# Altium schematic symbol library MOTHERBOARD.SchLib: 669 symbols (part 1 of 2)
Pins are listed as number, name and electrical type; pins without a type are passive.

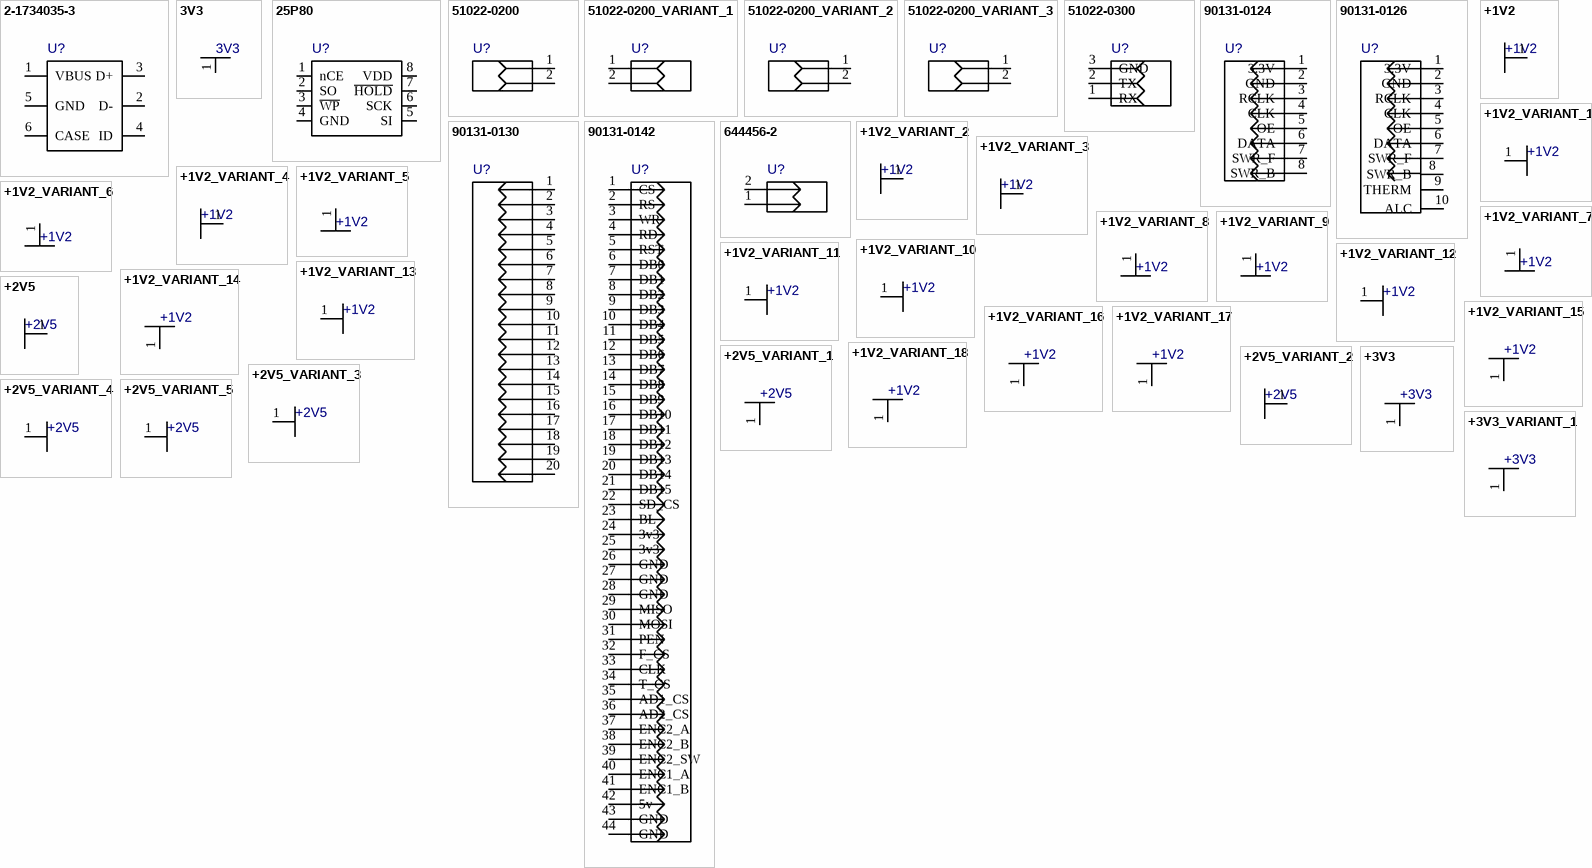
[diagram p0: symbols 2-1734035-3 to +3V3_VARIANT_1]

## 2-1734035-3
designator U?  (value not drawn)
Value: *
footprint 1734035
pins: 1 VBUS, 2 D-, 3 D+, 4 ID, 5 GND, 6 CASE

## 3V3
designator U?
Value: *
pins: 1

## 25P80
designator U?  (value not drawn)
Value: *
footprint SOIC-8/209mil
pins: 1 nCE, 2 SO, 3 ~{WP}, 4 GND, 5 SI, 6 SCK, 7 ~{HOLD}, 8 VDD

## 51022-0200
designator U?  (value not drawn)
Value: *
footprint HDR-1x2T/2.54/5x2
pins: 1, 2

## 51022-0200_VARIANT_1
designator U?, comment 51022-0200  (value not drawn)
51022-0200_VARIANT_1; Value: *
footprint HDR-1x2T/2.54/5x2
pins: 1, 2

## 51022-0200_VARIANT_2
designator U?, comment 51022-0200  (value not drawn)
51022-0200_VARIANT_2; Value: *
footprint HDR-1x2T/2.54/5x2
pins: 1, 2

## 51022-0200_VARIANT_3
designator U?, comment 51022-0200  (value not drawn)
51022-0200_VARIANT_3; Value: *
footprint HDR-1x2T/2.54/5x2
pins: 1, 2

## 51022-0300
designator U?  (value not drawn)
Value: *
footprint HDR-1x3T/2.54/7x2
pins: 1 RX, 2 TX, 3 GND

## 90131-0124
designator U?  (value not drawn)
Value: *
footprint HDR-2x4T/2.54x2.54/10x5
footprint 90131-0124
pins: 1 3.3V, 2 GND, 3 RCLK, 4 CLK, 5 OE, 6 DATA, 7 SWR_F, 8 SWR_B

## 90131-0126
designator U?  (value not drawn)
Value: *
footprint 90131-0126
pins: 1 3.3V, 2 GND, 3 RCLK, 4 CLK, 5 OE, 6 DATA, 7 SWR_F, 8 SWR_B, 9 THERM, 10 ALC

## 90131-0130
designator U?  (value not drawn)
Value: *
footprint HDR-2x10T/2.54x2.54/25x5
pins: 1 P1, 2 P2, 3 P3, 4 P4, 5 P5, 6 P6, 7 P7, 8 P8, 9 P9, 10 P10, 11 P11, 12 P12, 13 P13, 14 P14, 15 P15, 16 P16, 17 P17, 18 P18, 19 P19, 20 P20

## 90131-0142
designator U?  (value not drawn)
Value: *
footprint HDR-2x22T/2.54x2.54/56x5
pins: 1 CS, 2 RS, 3 WR, 4 RD, 5 RST, 6 DB0, 7 DB1, 8 DB2, 9 DB3, 10 DB4, 11 DB5, 12 DB6, 13 DB7, 14 DB8, 15 DB9, 16 DB10, 17 DB11, 18 DB12, 19 DB13, 20 DB14, 21 DB15, 22 SD_CS, 23 BL, 24 3v3, 25 3v3, 26 GND, 27 GND, 28 GND, 29 MISO, 30 MOSI, 31 PEN, 32 F_CS, 33 CLK, 34 T_CS, 35 AD1_CS, 36 AD2_CS, 37 ENC2_A, 38 ENC2_B, 39 ENC2_SW, 40 ENC1_A, 41 ENC1_B, 42 5v, 43 GND, 44 GND

## 644456-2
designator U?  (value not drawn)
Value: *
footprint HDR-1x2T/2.54/5x2
pins: 1 P1, 2 P2

## +1V2
designator U?
Value: *
pins: 1 +1V2

## +1V2_VARIANT_1
designator U?, comment +1V2
+1V2_VARIANT_1; Value: *
pins: 1 +1V2

## +1V2_VARIANT_2
designator U?, comment +1V2
+1V2_VARIANT_2; Value: *
pins: 1 +1V2

## +1V2_VARIANT_3
designator U?, comment +1V2
+1V2_VARIANT_3; Value: *
pins: 1 +1V2

## +1V2_VARIANT_4
designator U?, comment +1V2
+1V2_VARIANT_4; Value: *
pins: 1 +1V2

## +1V2_VARIANT_5
designator U?, comment +1V2
+1V2_VARIANT_5; Value: *
pins: 1 +1V2

## +1V2_VARIANT_6
designator U?, comment +1V2
+1V2_VARIANT_6; Value: *
pins: 1 +1V2

## +1V2_VARIANT_7
designator U?, comment +1V2
+1V2_VARIANT_7; Value: *
pins: 1 +1V2

## +1V2_VARIANT_8
designator U?, comment +1V2
+1V2_VARIANT_8; Value: *
pins: 1 +1V2

## +1V2_VARIANT_9
designator U?, comment +1V2
+1V2_VARIANT_9; Value: *
pins: 1 +1V2

## +1V2_VARIANT_10
designator U?, comment +1V2
+1V2_VARIANT_10; Value: *
pins: 1 +1V2

## +1V2_VARIANT_11
designator U?, comment +1V2
+1V2_VARIANT_11; Value: *
pins: 1 +1V2

## +1V2_VARIANT_12
designator U?, comment +1V2
+1V2_VARIANT_12; Value: *
pins: 1 +1V2

## +1V2_VARIANT_13
designator U?, comment +1V2
+1V2_VARIANT_13; Value: *
pins: 1 +1V2

## +1V2_VARIANT_14
designator U?, comment +1V2
+1V2_VARIANT_14; Value: *
pins: 1 +1V2

## +1V2_VARIANT_15
designator U?, comment +1V2
+1V2_VARIANT_15; Value: *
pins: 1 +1V2

## +1V2_VARIANT_16
designator U?, comment +1V2
+1V2_VARIANT_16; Value: *
pins: 1 +1V2

## +1V2_VARIANT_17
designator U?, comment +1V2
+1V2_VARIANT_17; Value: *
pins: 1 +1V2

## +1V2_VARIANT_18
designator U?, comment +1V2
+1V2_VARIANT_18; Value: *
pins: 1 +1V2

## +2V5
designator U?
Value: *
pins: 1 +2V5

## +2V5_VARIANT_1
designator U?, comment +2V5
+2V5_VARIANT_1; Value: *
pins: 1 +2V5

## +2V5_VARIANT_2
designator U?, comment +2V5
+2V5_VARIANT_2; Value: *
pins: 1 +2V5

## +2V5_VARIANT_3
designator U?, comment +2V5
+2V5_VARIANT_3; Value: *
pins: 1 +2V5

## +2V5_VARIANT_4
designator U?, comment +2V5
+2V5_VARIANT_4; Value: *
pins: 1 +2V5

## +2V5_VARIANT_5
designator U?, comment +2V5
+2V5_VARIANT_5; Value: *
pins: 1 +2V5

## +3V3
designator U?
Value: *
pins: 1 +3V3

## +3V3_VARIANT_1
designator U?, comment +3V3
+3V3_VARIANT_1; Value: *
pins: 1 +3V3

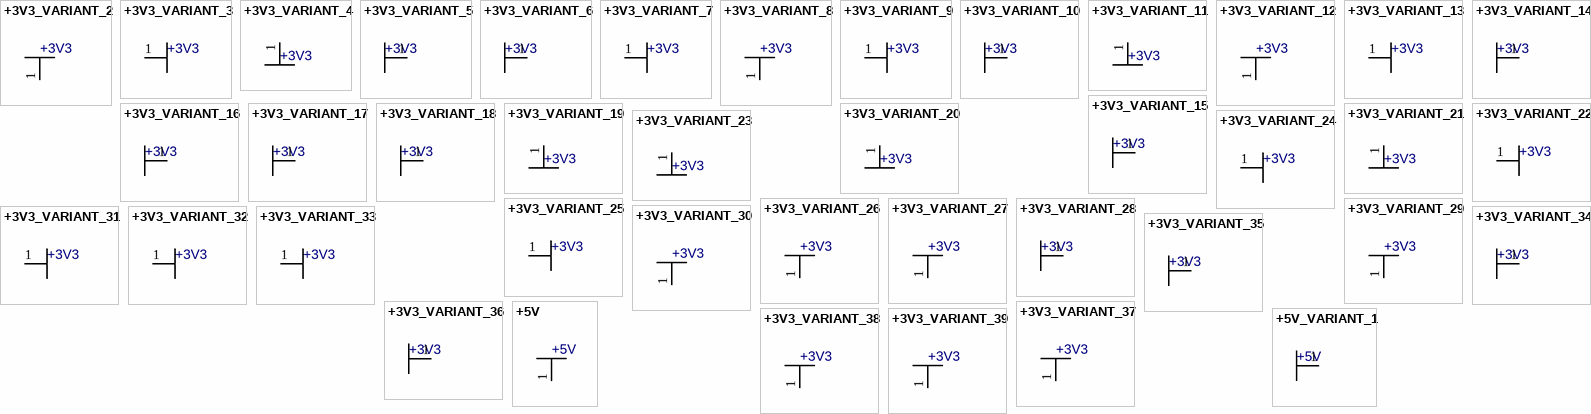
[diagram p1: symbols +3V3_VARIANT_2 to +5V_VARIANT_1]

## +3V3_VARIANT_2
designator U?, comment +3V3
+3V3_VARIANT_2; Value: *
pins: 1 +3V3

## +3V3_VARIANT_3
designator U?, comment +3V3
+3V3_VARIANT_3; Value: *
pins: 1 +3V3

## +3V3_VARIANT_4
designator U?, comment +3V3
+3V3_VARIANT_4; Value: *
pins: 1 +3V3

## +3V3_VARIANT_5
designator U?, comment +3V3
+3V3_VARIANT_5; Value: *
pins: 1 +3V3

## +3V3_VARIANT_6
designator U?, comment +3V3
+3V3_VARIANT_6; Value: *
pins: 1 +3V3

## +3V3_VARIANT_7
designator U?, comment +3V3
+3V3_VARIANT_7; Value: *
pins: 1 +3V3

## +3V3_VARIANT_8
designator U?, comment +3V3
+3V3_VARIANT_8; Value: *
pins: 1 +3V3

## +3V3_VARIANT_9
designator U?, comment +3V3
+3V3_VARIANT_9; Value: *
pins: 1 +3V3

## +3V3_VARIANT_10
designator U?, comment +3V3
+3V3_VARIANT_10; Value: *
pins: 1 +3V3

## +3V3_VARIANT_11
designator U?, comment +3V3
+3V3_VARIANT_11; Value: *
pins: 1 +3V3

## +3V3_VARIANT_12
designator U?, comment +3V3
+3V3_VARIANT_12; Value: *
pins: 1 +3V3

## +3V3_VARIANT_13
designator U?, comment +3V3
+3V3_VARIANT_13; Value: *
pins: 1 +3V3

## +3V3_VARIANT_14
designator U?, comment +3V3
+3V3_VARIANT_14; Value: *
pins: 1 +3V3

## +3V3_VARIANT_15
designator U?, comment +3V3
+3V3_VARIANT_15; Value: *
pins: 1 +3V3

## +3V3_VARIANT_16
designator U?, comment +3V3
+3V3_VARIANT_16; Value: *
pins: 1 +3V3

## +3V3_VARIANT_17
designator U?, comment +3V3
+3V3_VARIANT_17; Value: *
pins: 1 +3V3

## +3V3_VARIANT_18
designator U?, comment +3V3
+3V3_VARIANT_18; Value: *
pins: 1 +3V3

## +3V3_VARIANT_19
designator U?, comment +3V3
+3V3_VARIANT_19; Value: *
pins: 1 +3V3

## +3V3_VARIANT_20
designator U?, comment +3V3
+3V3_VARIANT_20; Value: *
pins: 1 +3V3

## +3V3_VARIANT_21
designator U?, comment +3V3
+3V3_VARIANT_21; Value: *
pins: 1 +3V3

## +3V3_VARIANT_22
designator U?, comment +3V3
+3V3_VARIANT_22; Value: *
pins: 1 +3V3

## +3V3_VARIANT_23
designator U?, comment +3V3
+3V3_VARIANT_23; Value: *
pins: 1 +3V3

## +3V3_VARIANT_24
designator U?, comment +3V3
+3V3_VARIANT_24; Value: *
pins: 1 +3V3

## +3V3_VARIANT_25
designator U?, comment +3V3
+3V3_VARIANT_25; Value: *
pins: 1 +3V3

## +3V3_VARIANT_26
designator U?, comment +3V3
+3V3_VARIANT_26; Value: *
pins: 1 +3V3

## +3V3_VARIANT_27
designator U?, comment +3V3
+3V3_VARIANT_27; Value: *
pins: 1 +3V3

## +3V3_VARIANT_28
designator U?, comment +3V3
+3V3_VARIANT_28; Value: *
pins: 1 +3V3

## +3V3_VARIANT_29
designator U?, comment +3V3
+3V3_VARIANT_29; Value: *
pins: 1 +3V3

## +3V3_VARIANT_30
designator U?, comment +3V3
+3V3_VARIANT_30; Value: *
pins: 1 +3V3

## +3V3_VARIANT_31
designator U?, comment +3V3
+3V3_VARIANT_31; Value: *
pins: 1 +3V3

## +3V3_VARIANT_32
designator U?, comment +3V3
+3V3_VARIANT_32; Value: *
pins: 1 +3V3

## +3V3_VARIANT_33
designator U?, comment +3V3
+3V3_VARIANT_33; Value: *
pins: 1 +3V3

## +3V3_VARIANT_34
designator U?, comment +3V3
+3V3_VARIANT_34; Value: *
pins: 1 +3V3

## +3V3_VARIANT_35
designator U?, comment +3V3
+3V3_VARIANT_35; Value: *
pins: 1 +3V3

## +3V3_VARIANT_36
designator U?, comment +3V3
+3V3_VARIANT_36; Value: *
pins: 1 +3V3

## +3V3_VARIANT_37
designator U?, comment +3V3
+3V3_VARIANT_37; Value: *
pins: 1 +3V3

## +3V3_VARIANT_38
designator U?, comment +3V3
+3V3_VARIANT_38; Value: *
pins: 1 +3V3

## +3V3_VARIANT_39
designator U?, comment +3V3
+3V3_VARIANT_39; Value: *
pins: 1 +3V3

## +5V
designator U?
Value: *
pins: 1 +5V

## +5V_VARIANT_1
designator U?, comment +5V
+5V_VARIANT_1; Value: *
pins: 1 +5V

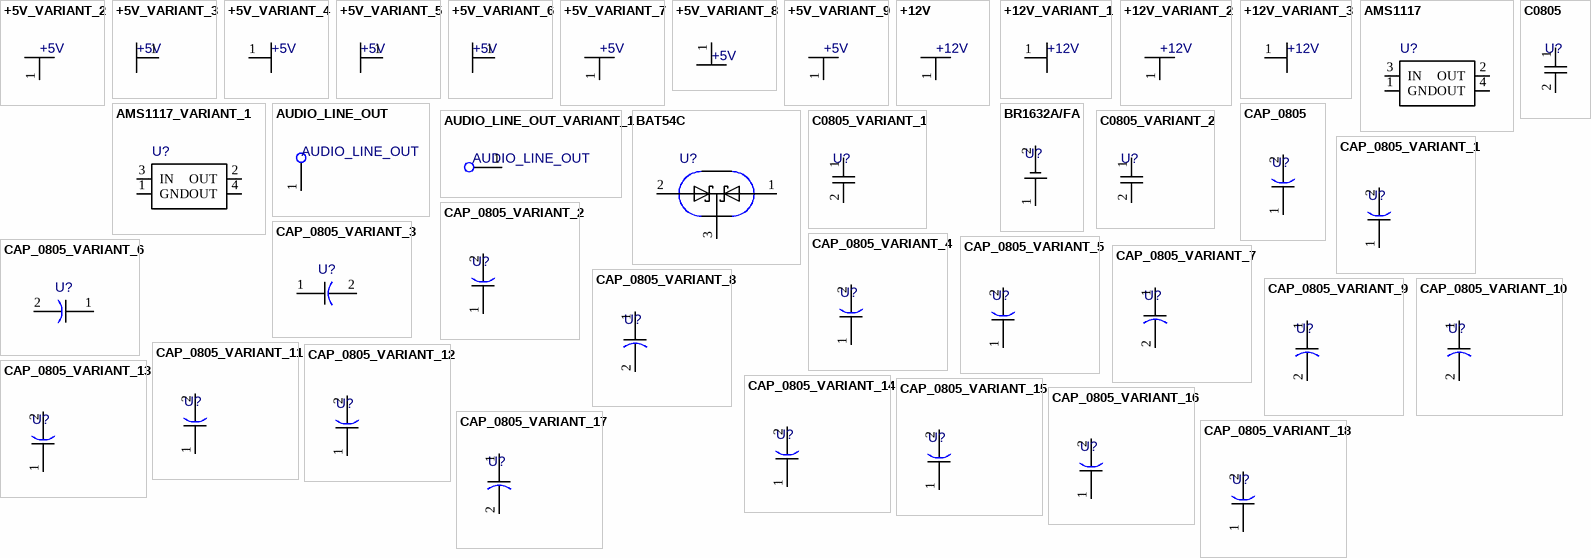
[diagram p2: symbols +5V_VARIANT_2 to CAP_0805_VARIANT_18]

## +5V_VARIANT_2
designator U?, comment +5V
+5V_VARIANT_2; Value: *
pins: 1 +5V

## +5V_VARIANT_3
designator U?, comment +5V
+5V_VARIANT_3; Value: *
pins: 1 +5V

## +5V_VARIANT_4
designator U?, comment +5V
+5V_VARIANT_4; Value: *
pins: 1 +5V

## +5V_VARIANT_5
designator U?, comment +5V
+5V_VARIANT_5; Value: *
pins: 1 +5V

## +5V_VARIANT_6
designator U?, comment +5V
+5V_VARIANT_6; Value: *
pins: 1 +5V

## +5V_VARIANT_7
designator U?, comment +5V
+5V_VARIANT_7; Value: *
pins: 1 +5V

## +5V_VARIANT_8
designator U?, comment +5V
+5V_VARIANT_8; Value: *
pins: 1 +5V

## +5V_VARIANT_9
designator U?, comment +5V
+5V_VARIANT_9; Value: *
pins: 1 +5V

## +12V
designator U?
Value: *
pins: 1 +12V

## +12V_VARIANT_1
designator U?, comment +12V
+12V_VARIANT_1; Value: *
pins: 1 +12V

## +12V_VARIANT_2
designator U?, comment +12V
+12V_VARIANT_2; Value: *
pins: 1 +12V

## +12V_VARIANT_3
designator U?, comment +12V
+12V_VARIANT_3; Value: *
pins: 1 +12V

## AMS1117
designator U?  (value not drawn)
Value: *
footprint SOT223-4
pins: 1 GND, 2 OUT, 3 IN, 4 OUT

## AMS1117_VARIANT_1
designator U?, comment AMS1117  (value not drawn)
AMS1117_VARIANT_1; Value: *
footprint SOT223-4
pins: 1 GND, 2 OUT, 3 IN, 4 OUT

## AUDIO_LINE_OUT
designator U?
Value: *
pins: 1

## AUDIO_LINE_OUT_VARIANT_1
designator U?, comment AUDIO_LINE_OUT
AUDIO_LINE_OUT_VARIANT_1; Value: *
pins: 1

## BAT54C
designator U?  (value not drawn)
Value: *
footprint SOT23
pins: 1 (A1), 2 (A2), 3 (K1),(K2)

## BR1632A/FA
designator U?  (value not drawn)
Value: *
footprint BR1632/HFN
pins: 1 POS, 2 NEG

## C0805
designator U?  (value not drawn)
Value: *
footprint CAP_1206
pins: 1, 2

## C0805_VARIANT_1
designator U?, comment C0805  (value not drawn)
C0805_VARIANT_1; Value: *
footprint CAP_1206
pins: 1, 2

## C0805_VARIANT_2
designator U?, comment C0805  (value not drawn)
C0805_VARIANT_2; Value: *
footprint CAP_1206
pins: 1, 2

## CAP_0805
designator U?  (value not drawn)
Value: *
footprint CAP_0805
pins: 1, 2

## CAP_0805_VARIANT_1
designator U?, comment CAP_0805  (value not drawn)
CAP_0805_VARIANT_1; Value: *
footprint CAP_0805
pins: 1, 2

## CAP_0805_VARIANT_2
designator U?, comment CAP_0805  (value not drawn)
CAP_0805_VARIANT_2; Value: *
footprint CAP_0805
pins: 1, 2

## CAP_0805_VARIANT_3
designator U?, comment CAP_0805  (value not drawn)
CAP_0805_VARIANT_3; Value: *
footprint CAP_0805
pins: 1, 2

## CAP_0805_VARIANT_4
designator U?, comment CAP_0805  (value not drawn)
CAP_0805_VARIANT_4; Value: *
footprint CAP_0805
pins: 1, 2

## CAP_0805_VARIANT_5
designator U?, comment CAP_0805  (value not drawn)
CAP_0805_VARIANT_5; Value: *
footprint CAP_0805
pins: 1, 2

## CAP_0805_VARIANT_6
designator U?, comment CAP_0805  (value not drawn)
CAP_0805_VARIANT_6; Value: *
footprint CAP_0805
pins: 1, 2

## CAP_0805_VARIANT_7
designator U?, comment CAP_0805  (value not drawn)
CAP_0805_VARIANT_7; Value: *
footprint CAP_0805
pins: 1, 2

## CAP_0805_VARIANT_8
designator U?, comment CAP_0805  (value not drawn)
CAP_0805_VARIANT_8; Value: *
footprint CAP_0805
pins: 1, 2

## CAP_0805_VARIANT_9
designator U?, comment CAP_0805  (value not drawn)
CAP_0805_VARIANT_9; Value: *
footprint CAP_0805
pins: 1, 2

## CAP_0805_VARIANT_10
designator U?, comment CAP_0805  (value not drawn)
CAP_0805_VARIANT_10; Value: *
footprint CAP_0805
pins: 1, 2

## CAP_0805_VARIANT_11
designator U?, comment CAP_0805  (value not drawn)
CAP_0805_VARIANT_11; Value: *
footprint CAP_0805
pins: 1, 2

## CAP_0805_VARIANT_12
designator U?, comment CAP_0805  (value not drawn)
CAP_0805_VARIANT_12; Value: *
footprint CAP_0805
pins: 1, 2

## CAP_0805_VARIANT_13
designator U?, comment CAP_0805  (value not drawn)
CAP_0805_VARIANT_13; Value: *
footprint CAP_0805
pins: 1, 2

## CAP_0805_VARIANT_14
designator U?, comment CAP_0805  (value not drawn)
CAP_0805_VARIANT_14; Value: *
footprint CAP_0805
pins: 1, 2

## CAP_0805_VARIANT_15
designator U?, comment CAP_0805  (value not drawn)
CAP_0805_VARIANT_15; Value: *
footprint CAP_0805
pins: 1, 2

## CAP_0805_VARIANT_16
designator U?, comment CAP_0805  (value not drawn)
CAP_0805_VARIANT_16; Value: *
footprint CAP_0805
pins: 1, 2

## CAP_0805_VARIANT_17
designator U?, comment CAP_0805  (value not drawn)
CAP_0805_VARIANT_17; Value: *
footprint CAP_0805
pins: 1, 2

## CAP_0805_VARIANT_18
designator U?, comment CAP_0805  (value not drawn)
CAP_0805_VARIANT_18; Value: *
footprint CAP_0805
pins: 1, 2

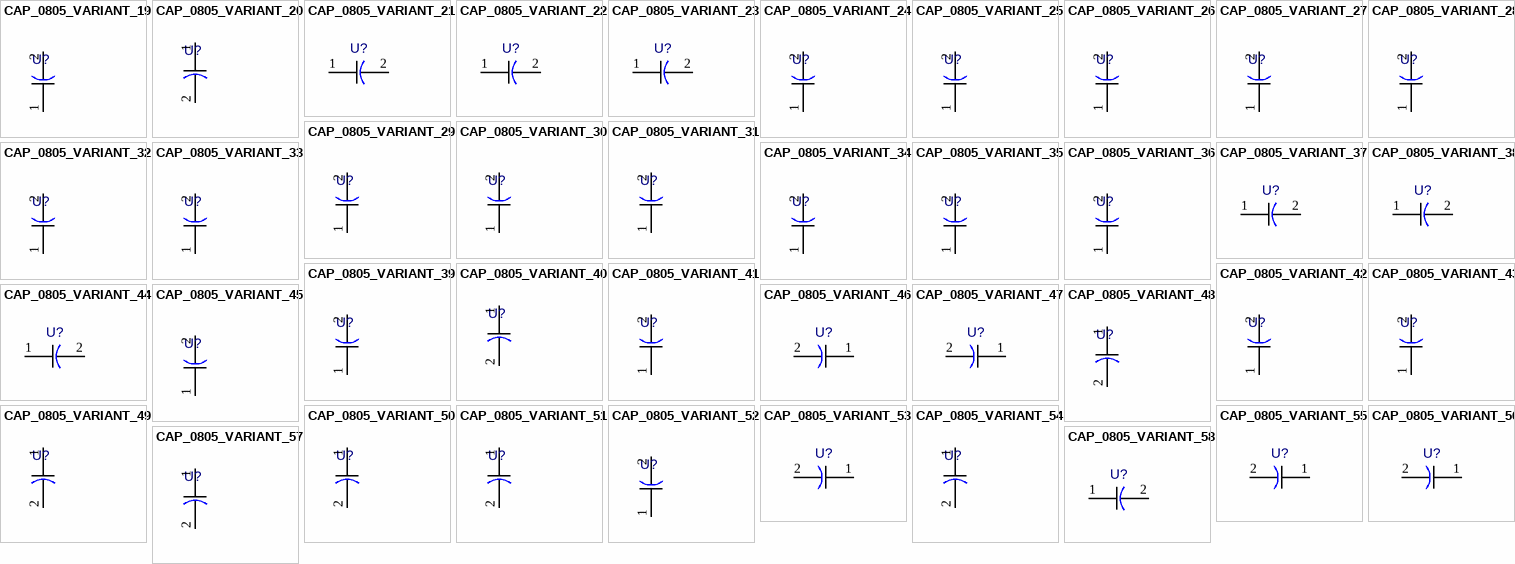
[diagram p3: symbols CAP_0805_VARIANT_19 to CAP_0805_VARIANT_58]

## CAP_0805_VARIANT_19
designator U?, comment CAP_0805  (value not drawn)
CAP_0805_VARIANT_19; Value: *
footprint CAP_0805
pins: 1, 2

## CAP_0805_VARIANT_20
designator U?, comment CAP_0805  (value not drawn)
CAP_0805_VARIANT_20; Value: *
footprint CAP_0805
pins: 1, 2

## CAP_0805_VARIANT_21
designator U?, comment CAP_0805  (value not drawn)
CAP_0805_VARIANT_21; Value: *
footprint CAP_0805
pins: 1, 2

## CAP_0805_VARIANT_22
designator U?, comment CAP_0805  (value not drawn)
CAP_0805_VARIANT_22; Value: *
footprint CAP_0805
pins: 1, 2

## CAP_0805_VARIANT_23
designator U?, comment CAP_0805  (value not drawn)
CAP_0805_VARIANT_23; Value: *
footprint CAP_0805
pins: 1, 2

## CAP_0805_VARIANT_24
designator U?, comment CAP_0805  (value not drawn)
CAP_0805_VARIANT_24; Value: *
footprint CAP_0805
pins: 1, 2

## CAP_0805_VARIANT_25
designator U?, comment CAP_0805  (value not drawn)
CAP_0805_VARIANT_25; Value: *
footprint CAP_0805
pins: 1, 2

## CAP_0805_VARIANT_26
designator U?, comment CAP_0805  (value not drawn)
CAP_0805_VARIANT_26; Value: *
footprint CAP_0805
pins: 1, 2

## CAP_0805_VARIANT_27
designator U?, comment CAP_0805  (value not drawn)
CAP_0805_VARIANT_27; Value: *
footprint CAP_0805
pins: 1, 2

## CAP_0805_VARIANT_28
designator U?, comment CAP_0805  (value not drawn)
CAP_0805_VARIANT_28; Value: *
footprint CAP_0805
pins: 1, 2

## CAP_0805_VARIANT_29
designator U?, comment CAP_0805  (value not drawn)
CAP_0805_VARIANT_29; Value: *
footprint CAP_0805
pins: 1, 2

## CAP_0805_VARIANT_30
designator U?, comment CAP_0805  (value not drawn)
CAP_0805_VARIANT_30; Value: *
footprint CAP_0805
pins: 1, 2

## CAP_0805_VARIANT_31
designator U?, comment CAP_0805  (value not drawn)
CAP_0805_VARIANT_31; Value: *
footprint CAP_0805
pins: 1, 2

## CAP_0805_VARIANT_32
designator U?, comment CAP_0805  (value not drawn)
CAP_0805_VARIANT_32; Value: *
footprint CAP_0805
pins: 1, 2

## CAP_0805_VARIANT_33
designator U?, comment CAP_0805  (value not drawn)
CAP_0805_VARIANT_33; Value: *
footprint CAP_0805
pins: 1, 2

## CAP_0805_VARIANT_34
designator U?, comment CAP_0805  (value not drawn)
CAP_0805_VARIANT_34; Value: *
footprint CAP_0805
pins: 1, 2

## CAP_0805_VARIANT_35
designator U?, comment CAP_0805  (value not drawn)
CAP_0805_VARIANT_35; Value: *
footprint CAP_0805
pins: 1, 2

## CAP_0805_VARIANT_36
designator U?, comment CAP_0805  (value not drawn)
CAP_0805_VARIANT_36; Value: *
footprint CAP_0805
pins: 1, 2

## CAP_0805_VARIANT_37
designator U?, comment CAP_0805  (value not drawn)
CAP_0805_VARIANT_37; Value: *
footprint CAP_0805
pins: 1, 2

## CAP_0805_VARIANT_38
designator U?, comment CAP_0805  (value not drawn)
CAP_0805_VARIANT_38; Value: *
footprint CAP_0805
pins: 1, 2

## CAP_0805_VARIANT_39
designator U?, comment CAP_0805  (value not drawn)
CAP_0805_VARIANT_39; Value: *
footprint CAP_0805
pins: 1, 2

## CAP_0805_VARIANT_40
designator U?, comment CAP_0805  (value not drawn)
CAP_0805_VARIANT_40; Value: *
footprint CAP_0805
pins: 1, 2

## CAP_0805_VARIANT_41
designator U?, comment CAP_0805  (value not drawn)
CAP_0805_VARIANT_41; Value: *
footprint CAP_0805
pins: 1, 2

## CAP_0805_VARIANT_42
designator U?, comment CAP_0805  (value not drawn)
CAP_0805_VARIANT_42; Value: *
footprint CAP_0805
pins: 1, 2

## CAP_0805_VARIANT_43
designator U?, comment CAP_0805  (value not drawn)
CAP_0805_VARIANT_43; Value: *
footprint CAP_0805
pins: 1, 2

## CAP_0805_VARIANT_44
designator U?, comment CAP_0805  (value not drawn)
CAP_0805_VARIANT_44; Value: *
footprint CAP_0805
pins: 1, 2

## CAP_0805_VARIANT_45
designator U?, comment CAP_0805  (value not drawn)
CAP_0805_VARIANT_45; Value: *
footprint CAP_0805
pins: 1, 2

## CAP_0805_VARIANT_46
designator U?, comment CAP_0805  (value not drawn)
CAP_0805_VARIANT_46; Value: *
footprint CAP_0805
pins: 1, 2

## CAP_0805_VARIANT_47
designator U?, comment CAP_0805  (value not drawn)
CAP_0805_VARIANT_47; Value: *
footprint CAP_0805
pins: 1, 2

## CAP_0805_VARIANT_48
designator U?, comment CAP_0805  (value not drawn)
CAP_0805_VARIANT_48; Value: *
footprint CAP_0805
pins: 1, 2

## CAP_0805_VARIANT_49
designator U?, comment CAP_0805  (value not drawn)
CAP_0805_VARIANT_49; Value: *
footprint CAP_0805
pins: 1, 2

## CAP_0805_VARIANT_50
designator U?, comment CAP_0805  (value not drawn)
CAP_0805_VARIANT_50; Value: *
footprint CAP_0805
pins: 1, 2

## CAP_0805_VARIANT_51
designator U?, comment CAP_0805  (value not drawn)
CAP_0805_VARIANT_51; Value: *
footprint CAP_0805
pins: 1, 2

## CAP_0805_VARIANT_52
designator U?, comment CAP_0805  (value not drawn)
CAP_0805_VARIANT_52; Value: *
footprint CAP_0805
pins: 1, 2

## CAP_0805_VARIANT_53
designator U?, comment CAP_0805  (value not drawn)
CAP_0805_VARIANT_53; Value: *
footprint CAP_0805
pins: 1, 2

## CAP_0805_VARIANT_54
designator U?, comment CAP_0805  (value not drawn)
CAP_0805_VARIANT_54; Value: *
footprint CAP_0805
pins: 1, 2

## CAP_0805_VARIANT_55
designator U?, comment CAP_0805  (value not drawn)
CAP_0805_VARIANT_55; Value: *
footprint CAP_0805
pins: 1, 2

## CAP_0805_VARIANT_56
designator U?, comment CAP_0805  (value not drawn)
CAP_0805_VARIANT_56; Value: *
footprint CAP_0805
pins: 1, 2

## CAP_0805_VARIANT_57
designator U?, comment CAP_0805  (value not drawn)
CAP_0805_VARIANT_57; Value: *
footprint CAP_0805
pins: 1, 2

## CAP_0805_VARIANT_58
designator U?, comment CAP_0805  (value not drawn)
CAP_0805_VARIANT_58; Value: *
footprint CAP_0805
pins: 1, 2

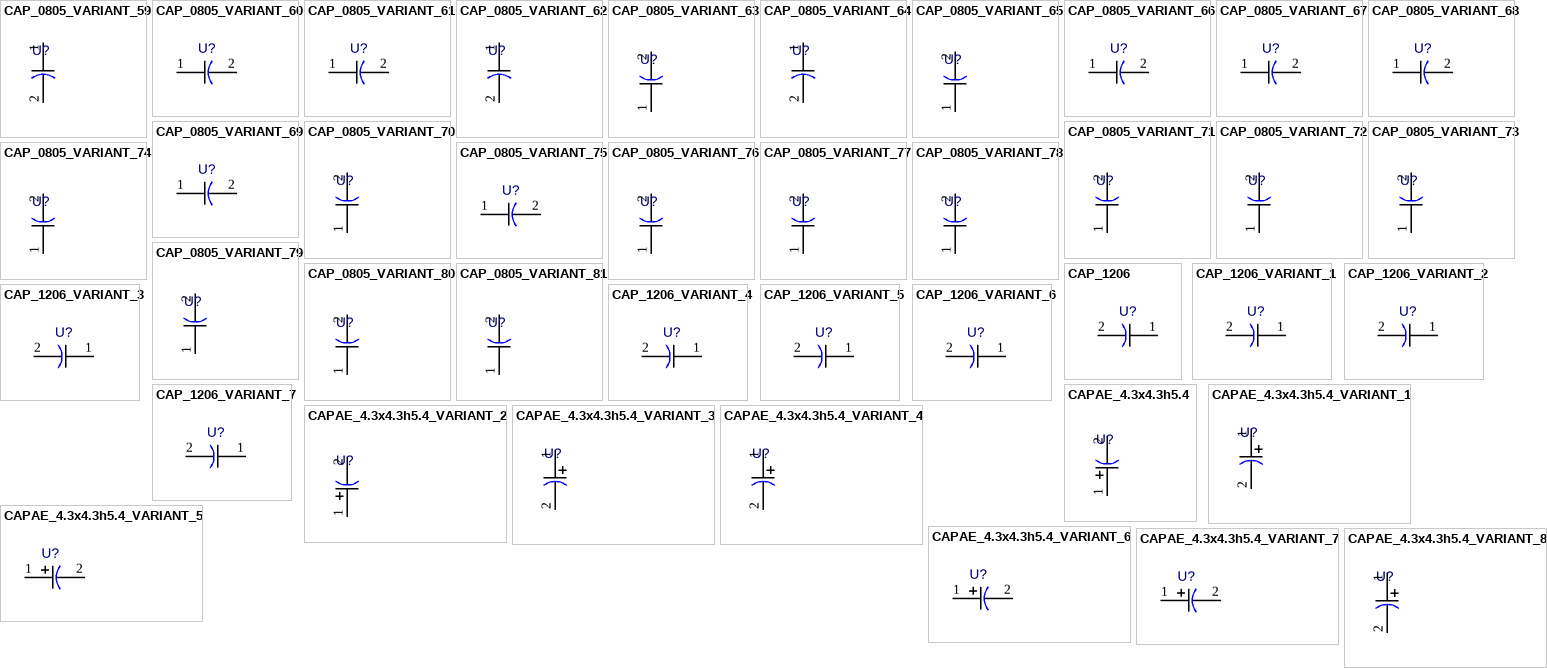
[diagram p4: symbols CAP_0805_VARIANT_59 to CAPAE_4.3x4.3h5.4_VARIANT_8]

## CAP_0805_VARIANT_59
designator U?, comment CAP_0805  (value not drawn)
CAP_0805_VARIANT_59; Value: *
footprint CAP_0805
pins: 1, 2

## CAP_0805_VARIANT_60
designator U?, comment CAP_0805  (value not drawn)
CAP_0805_VARIANT_60; Value: *
footprint CAP_0805
pins: 1, 2

## CAP_0805_VARIANT_61
designator U?, comment CAP_0805  (value not drawn)
CAP_0805_VARIANT_61; Value: *
footprint CAP_0805
pins: 1, 2

## CAP_0805_VARIANT_62
designator U?, comment CAP_0805  (value not drawn)
CAP_0805_VARIANT_62; Value: *
footprint CAP_0805
pins: 1, 2

## CAP_0805_VARIANT_63
designator U?, comment CAP_0805  (value not drawn)
CAP_0805_VARIANT_63; Value: *
footprint CAP_0805
pins: 1, 2

## CAP_0805_VARIANT_64
designator U?, comment CAP_0805  (value not drawn)
CAP_0805_VARIANT_64; Value: *
footprint CAP_0805
pins: 1, 2

## CAP_0805_VARIANT_65
designator U?, comment CAP_0805  (value not drawn)
CAP_0805_VARIANT_65; Value: *
footprint CAP_0805
pins: 1, 2

## CAP_0805_VARIANT_66
designator U?, comment CAP_0805  (value not drawn)
CAP_0805_VARIANT_66; Value: *
footprint CAP_0805
pins: 1, 2

## CAP_0805_VARIANT_67
designator U?, comment CAP_0805  (value not drawn)
CAP_0805_VARIANT_67; Value: *
footprint CAP_0805
pins: 1, 2

## CAP_0805_VARIANT_68
designator U?, comment CAP_0805  (value not drawn)
CAP_0805_VARIANT_68; Value: *
footprint CAP_0805
pins: 1, 2

## CAP_0805_VARIANT_69
designator U?, comment CAP_0805  (value not drawn)
CAP_0805_VARIANT_69; Value: *
footprint CAP_0805
pins: 1, 2

## CAP_0805_VARIANT_70
designator U?, comment CAP_0805  (value not drawn)
CAP_0805_VARIANT_70; Value: *
footprint CAP_0805
pins: 1, 2

## CAP_0805_VARIANT_71
designator U?, comment CAP_0805  (value not drawn)
CAP_0805_VARIANT_71; Value: *
footprint CAP_0805
pins: 1, 2

## CAP_0805_VARIANT_72
designator U?, comment CAP_0805  (value not drawn)
CAP_0805_VARIANT_72; Value: *
footprint CAP_0805
pins: 1, 2

## CAP_0805_VARIANT_73
designator U?, comment CAP_0805  (value not drawn)
CAP_0805_VARIANT_73; Value: *
footprint CAP_0805
pins: 1, 2

## CAP_0805_VARIANT_74
designator U?, comment CAP_0805  (value not drawn)
CAP_0805_VARIANT_74; Value: *
footprint CAP_0805
pins: 1, 2

## CAP_0805_VARIANT_75
designator U?, comment CAP_0805  (value not drawn)
CAP_0805_VARIANT_75; Value: *
footprint CAP_0805
pins: 1, 2

## CAP_0805_VARIANT_76
designator U?, comment CAP_0805  (value not drawn)
CAP_0805_VARIANT_76; Value: *
footprint CAP_0805
pins: 1, 2

## CAP_0805_VARIANT_77
designator U?, comment CAP_0805  (value not drawn)
CAP_0805_VARIANT_77; Value: *
footprint CAP_0805
pins: 1, 2

## CAP_0805_VARIANT_78
designator U?, comment CAP_0805  (value not drawn)
CAP_0805_VARIANT_78; Value: *
footprint CAP_0805
pins: 1, 2

## CAP_0805_VARIANT_79
designator U?, comment CAP_0805  (value not drawn)
CAP_0805_VARIANT_79; Value: *
footprint CAP_0805
pins: 1, 2

## CAP_0805_VARIANT_80
designator U?, comment CAP_0805  (value not drawn)
CAP_0805_VARIANT_80; Value: *
footprint CAP_0805
pins: 1, 2

## CAP_0805_VARIANT_81
designator U?, comment CAP_0805  (value not drawn)
CAP_0805_VARIANT_81; Value: *
footprint CAP_0805
pins: 1, 2

## CAP_1206
designator U?  (value not drawn)
Value: *
footprint CAP_1206
pins: 1, 2

## CAP_1206_VARIANT_1
designator U?, comment CAP_1206  (value not drawn)
CAP_1206_VARIANT_1; Value: *
footprint CAP_1206
pins: 1, 2

## CAP_1206_VARIANT_2
designator U?, comment CAP_1206  (value not drawn)
CAP_1206_VARIANT_2; Value: *
footprint CAP_1206
pins: 1, 2

## CAP_1206_VARIANT_3
designator U?, comment CAP_1206  (value not drawn)
CAP_1206_VARIANT_3; Value: *
footprint CAP_1206
pins: 1, 2

## CAP_1206_VARIANT_4
designator U?, comment CAP_1206  (value not drawn)
CAP_1206_VARIANT_4; Value: *
footprint CAP_1206
pins: 1, 2

## CAP_1206_VARIANT_5
designator U?, comment CAP_1206  (value not drawn)
CAP_1206_VARIANT_5; Value: *
footprint CAP_1206
pins: 1, 2

## CAP_1206_VARIANT_6
designator U?, comment CAP_1206  (value not drawn)
CAP_1206_VARIANT_6; Value: *
footprint CAP_1206
pins: 1, 2

## CAP_1206_VARIANT_7
designator U?, comment CAP_1206  (value not drawn)
CAP_1206_VARIANT_7; Value: *
footprint CAP_1206
pins: 1, 2

## CAPAE_4.3x4.3h5.4
designator U?  (value not drawn)
Value: *
footprint TC_1411
pins: 1 PLUS, 2 MINUS

## CAPAE_4.3x4.3h5.4_VARIANT_1
designator U?, comment CAPAE_4.3x4.3h5.4  (value not drawn)
CAPAE_4.3x4.3h5.4_VARIANT_1; Value: *
footprint CAPAE-4.3x4.3h5.4
pins: 1 PLUS, 2 MINUS

## CAPAE_4.3x4.3h5.4_VARIANT_2
designator U?, comment CAPAE_4.3x4.3h5.4  (value not drawn)
CAPAE_4.3x4.3h5.4_VARIANT_2; Value: *
footprint TC_1411
pins: 1 PLUS, 2 MINUS

## CAPAE_4.3x4.3h5.4_VARIANT_3
designator U?, comment CAPAE_4.3x4.3h5.4  (value not drawn)
CAPAE_4.3x4.3h5.4_VARIANT_3; Value: *
footprint TC_1411
pins: 1 PLUS, 2 MINUS

## CAPAE_4.3x4.3h5.4_VARIANT_4
designator U?, comment CAPAE_4.3x4.3h5.4  (value not drawn)
CAPAE_4.3x4.3h5.4_VARIANT_4; Value: *
footprint TC_1411
pins: 1 PLUS, 2 MINUS

## CAPAE_4.3x4.3h5.4_VARIANT_5
designator U?, comment CAPAE_4.3x4.3h5.4  (value not drawn)
CAPAE_4.3x4.3h5.4_VARIANT_5; Value: *
footprint TC_1411
pins: 1 PLUS, 2 MINUS

## CAPAE_4.3x4.3h5.4_VARIANT_6
designator U?, comment CAPAE_4.3x4.3h5.4  (value not drawn)
CAPAE_4.3x4.3h5.4_VARIANT_6; Value: *
footprint TC_1411
pins: 1 PLUS, 2 MINUS

## CAPAE_4.3x4.3h5.4_VARIANT_7
designator U?, comment CAPAE_4.3x4.3h5.4  (value not drawn)
CAPAE_4.3x4.3h5.4_VARIANT_7; Value: *
footprint TC_1411
pins: 1 PLUS, 2 MINUS

## CAPAE_4.3x4.3h5.4_VARIANT_8
designator U?, comment CAPAE_4.3x4.3h5.4  (value not drawn)
CAPAE_4.3x4.3h5.4_VARIANT_8; Value: *
footprint TC_1411
pins: 1 PLUS, 2 MINUS

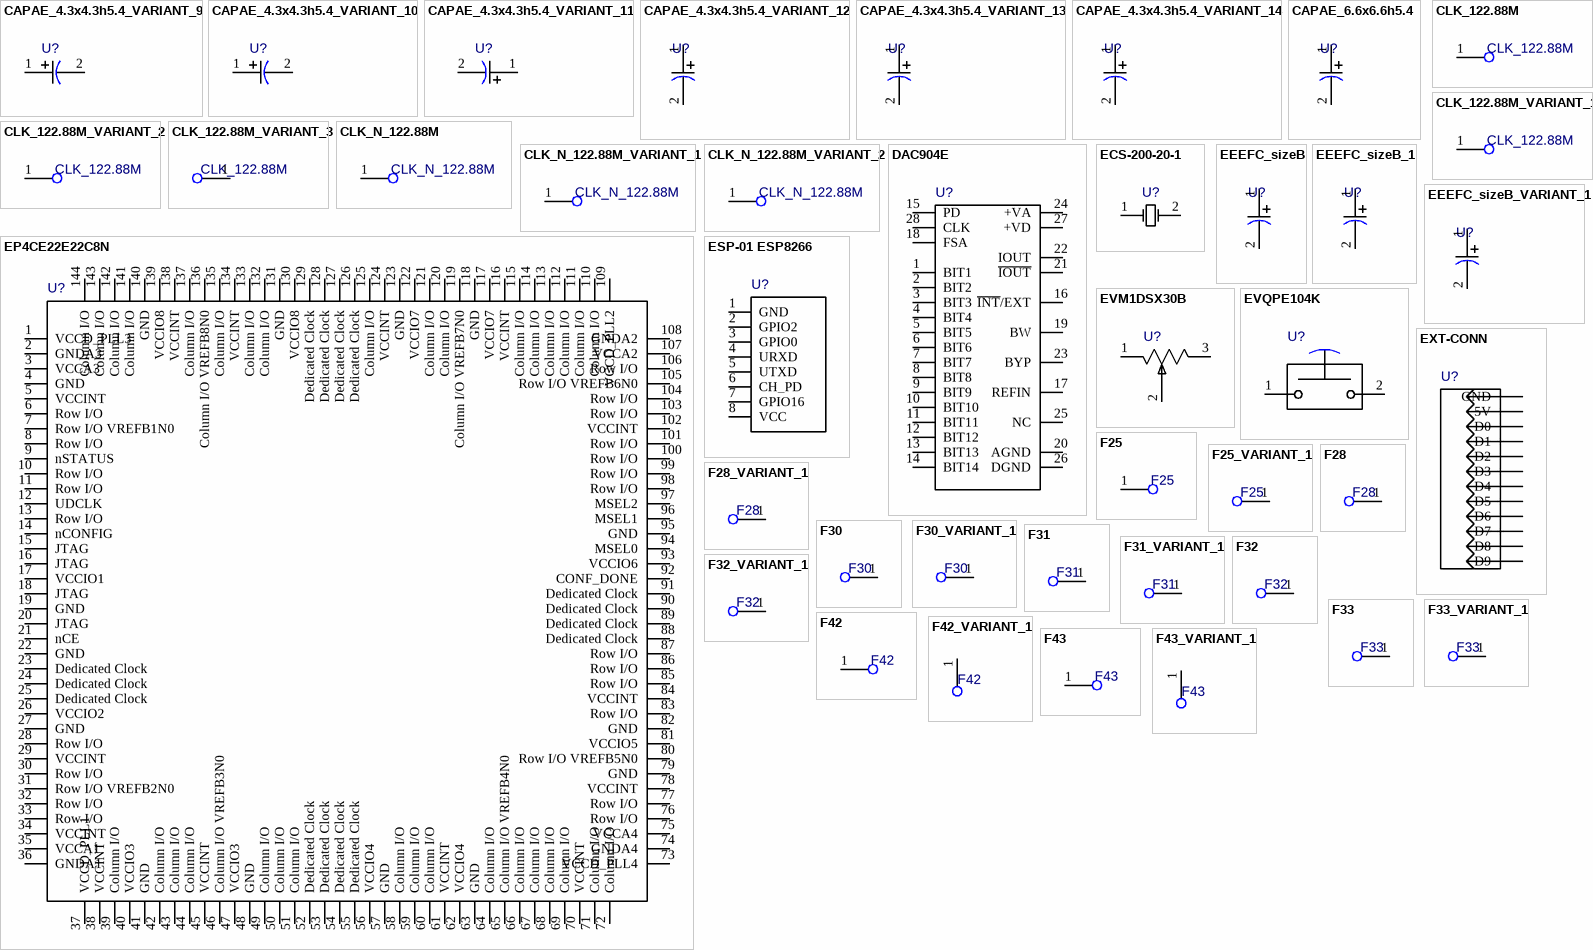
[diagram p5: symbols CAPAE_4.3x4.3h5.4_VARIANT_9 to F43_VARIANT_1]

## CAPAE_4.3x4.3h5.4_VARIANT_9
designator U?, comment CAPAE_4.3x4.3h5.4  (value not drawn)
CAPAE_4.3x4.3h5.4_VARIANT_9; Value: *
footprint TC_1411
pins: 1 PLUS, 2 MINUS

## CAPAE_4.3x4.3h5.4_VARIANT_10
designator U?, comment CAPAE_4.3x4.3h5.4  (value not drawn)
CAPAE_4.3x4.3h5.4_VARIANT_10; Value: *
footprint TC_1411
pins: 1 PLUS, 2 MINUS

## CAPAE_4.3x4.3h5.4_VARIANT_11
designator U?, comment CAPAE_4.3x4.3h5.4  (value not drawn)
CAPAE_4.3x4.3h5.4_VARIANT_11; Value: *
footprint TC_1411
pins: 1 PLUS, 2 MINUS

## CAPAE_4.3x4.3h5.4_VARIANT_12
designator U?, comment CAPAE_4.3x4.3h5.4  (value not drawn)
CAPAE_4.3x4.3h5.4_VARIANT_12; Value: *
footprint TC_1411
pins: 1 PLUS, 2 MINUS

## CAPAE_4.3x4.3h5.4_VARIANT_13
designator U?, comment CAPAE_4.3x4.3h5.4  (value not drawn)
CAPAE_4.3x4.3h5.4_VARIANT_13; Value: *
footprint TC_1411
pins: 1 PLUS, 2 MINUS

## CAPAE_4.3x4.3h5.4_VARIANT_14
designator U?, comment CAPAE_4.3x4.3h5.4  (value not drawn)
CAPAE_4.3x4.3h5.4_VARIANT_14; Value: *
footprint TC_1411
pins: 1 PLUS, 2 MINUS

## CAPAE_6.6x6.6h5.4
designator U?  (value not drawn)
Value: *
footprint CAPAE-6.6x6.6h5.4
pins: 1 PLUS, 2 MINUS

## CLK_122.88M
designator U?
Value: *
pins: 1

## CLK_122.88M_VARIANT_1
designator U?, comment CLK_122.88M
CLK_122.88M_VARIANT_1; Value: *
pins: 1

## CLK_122.88M_VARIANT_2
designator U?, comment CLK_122.88M
CLK_122.88M_VARIANT_2; Value: *
pins: 1

## CLK_122.88M_VARIANT_3
designator U?, comment CLK_122.88M
CLK_122.88M_VARIANT_3; Value: *
pins: 1

## CLK_N_122.88M
designator U?
Value: *
pins: 1

## CLK_N_122.88M_VARIANT_1
designator U?, comment CLK_N_122.88M
CLK_N_122.88M_VARIANT_1; Value: *
pins: 1

## CLK_N_122.88M_VARIANT_2
designator U?, comment CLK_N_122.88M
CLK_N_122.88M_VARIANT_2; Value: *
pins: 1

## DAC904E
designator U?  (value not drawn)
Value: *
footprint TSSOP-28
pins: 1 BIT1, 2 BIT2, 3 BIT3, 4 BIT4, 5 BIT5, 6 BIT6, 7 BIT7, 8 BIT8, 9 BIT9, 10 BIT10, 11 BIT11, 12 BIT12, 13 BIT13, 14 BIT14, 15 PD, 16 ~{INT}/EXT, 17 REFIN, 18 FSA, 19 BW, 20 AGND, 21 ~{IOUT}, 22 IOUT, 23 BYP, 24 +VA, 25 NC, 26 DGND, 27 +VD, 28 CLK

## ECS-200-20-1
designator U?  (value not drawn)
Value: *
footprint HC-49U
pins: 1 OSC1, 2 OSC2

## EEEFC_sizeB
designator U?  (value not drawn)
Value: *
footprint TC_1411
pins: 1 PLUS, 2 MINUS

## EEEFC_sizeB_1
designator U?, comment EEEFC_sizeС  (value not drawn)
Value: *
footprint EEEFC_sizeС
pins: 1 PLUS, 2 MINUS

## EEEFC_sizeB_VARIANT_1
designator U?, comment EEEFC_sizeB  (value not drawn)
EEEFC_sizeB_VARIANT_1; Value: *
footprint TC_1411
pins: 1 PLUS, 2 MINUS

## EP4CE22E22C8N
designator U?  (value not drawn)
Value: *
footprint QFP-144V2EP/22x22x0.5
pins: 1 VCCD_PLL3, 2 GNDA3, 3 VCCA3, 4 GND, 5 VCCINT, 6 Row I/O, 7 Row I/O VREFB1N0, 8 Row I/O, 9 nSTATUS, 10 Row I/O, 11 Row I/O, 12 UDCLK, 13 Row I/O, 14 nCONFIG, 15 JTAG, 16 JTAG, 17 VCCIO1, 18 JTAG, 19 GND, 20 JTAG, 21 nCE, 22 GND, 23 Dedicated Clock, 24 Dedicated Clock, 25 Dedicated Clock, 26 VCCIO2, 27 GND, 28 Row I/O, 29 VCCINT, 30 Row I/O, 31 Row I/O VREFB2N0, 32 Row I/O, 33 Row I/O, 34 VCCINT, 35 VCCA1, 36 GNDA1, 37 VCCD_PLL1, 38 VCCINT, 39 Column I/O, 40 VCCIO3, 41 GND, 42 Column I/O, 43 Column I/O, 44 Column I/O, 45 VCCINT, 46 Column I/O VREFB3N0, 47 VCCIO3, 48 GND, 49 Column I/O, 50 Column I/O, 51 Column I/O, 52 Dedicated Clock, 53 Dedicated Clock, 54 Dedicated Clock, 55 Dedicated Clock, 56 VCCIO4, 57 GND, 58 Column I/O, 59 Column I/O, 60 Column I/O, 61 VCCINT, 62 VCCIO4, 63 GND, 64 Column I/O, 65 Column I/O VREFB4N0, 66 Column I/O, 67 Column I/O, 68 Column I/O, 69 Column I/O, 70 VCCINT, 71 Column I/O, 72 Column I/O, 73 VCCD_PLL4, 74 GNDA4, 75 VCCA4, 76 Row I/O, 77 Row I/O, 78 VCCINT, 79 GND, 80 Row I/O VREFB5N0, 81 VCCIO5, 82 GND, 83 Row I/O, 84 VCCINT, 85 Row I/O, 86 Row I/O, 87 Row I/O, 88 Dedicated Clock, 89 Dedicated Clock, 90 Dedicated Clock, 91 Dedicated Clock, 92 CONF_DONE, 93 VCCIO6, 94 MSEL0, 95 GND, 96 MSEL1, 97 MSEL2, 98 Row I/O, 99 Row I/O, 100 Row I/O, 101 Row I/O, 102 VCCINT, 103 Row I/O, 104 Row I/O, 105 Row I/O VREFB6N0, 106 Row I/O, 107 VCCA2, 108 GNDA2, 109 VCCD_PLL2, 110 Column I/O, 111 Column I/O, 112 Column I/O, 113 Column I/O, 114 Column I/O, 115 Column I/O, 116 VCCINT, 117 VCCIO7, 118 GND, 119 Column I/O VREFB7N0, 120 Column I/O, 121 Column I/O, 122 VCCIO7, 123 GND, 124 VCCINT, 125 Column I/O, 126 Dedicated Clock, 127 Dedicated Clock, 128 Dedicated Clock, 129 Dedicated Clock, 130 VCCIO8, 131 GND, 132 Column I/O, 133 Column I/O, 134 VCCINT, 135 Column I/O, 136 Column I/O VREFB8N0, 137 Column I/O, 138 VCCINT, 139 VCCIO8, 140 GND, 141 Column I/O, 142 Column I/O, 143 Column I/O, 144 Column I/O

## ESP-01 ESP8266
designator U?  (value not drawn)
Value: *
footprint ESP-01 ESP8266
pins: 1 GND, 2 GPIO2, 3 GPIO0, 4 URXD, 5 UTXD, 6 CH_PD, 7 GPIO16, 8 VCC

## EVM1DSX30B
designator U?  (value not drawn)
Value: *
footprint EVM1D
pins: 1, 2, 3

## EVQPE104K
designator U?  (value not drawn)
Value: *
footprint EVQ-PN-PE-04
pins: 1 A, 2 B

## EXT-CONN
designator U?, comment 90131-0130  (value not drawn)
Value: *
footprint EXT-CONN
pins: 1 GND, 2 5V, 3 D0, 4 D1, 5 D2, 6 D3, 7 D4, 8 D5, 9 D6, 10 D7, 11 D8, 12 D9

## F25
designator U?
Value: *
pins: 1

## F25_VARIANT_1
designator U?, comment F25
F25_VARIANT_1; Value: *
pins: 1

## F28
designator U?
Value: *
pins: 1

## F28_VARIANT_1
designator U?, comment F28
F28_VARIANT_1; Value: *
pins: 1

## F30
designator U?
Value: *
pins: 1

## F30_VARIANT_1
designator U?, comment F30
F30_VARIANT_1; Value: *
pins: 1

## F31
designator U?
Value: *
pins: 1

## F31_VARIANT_1
designator U?, comment F31
F31_VARIANT_1; Value: *
pins: 1

## F32
designator U?
Value: *
pins: 1

## F32_VARIANT_1
designator U?, comment F32
F32_VARIANT_1; Value: *
pins: 1

## F33
designator U?
Value: *
pins: 1

## F33_VARIANT_1
designator U?, comment F33
F33_VARIANT_1; Value: *
pins: 1

## F42
designator U?
Value: *
pins: 1

## F42_VARIANT_1
designator U?, comment F42
F42_VARIANT_1; Value: *
pins: 1

## F43
designator U?
Value: *
pins: 1

## F43_VARIANT_1
designator U?, comment F43
F43_VARIANT_1; Value: *
pins: 1

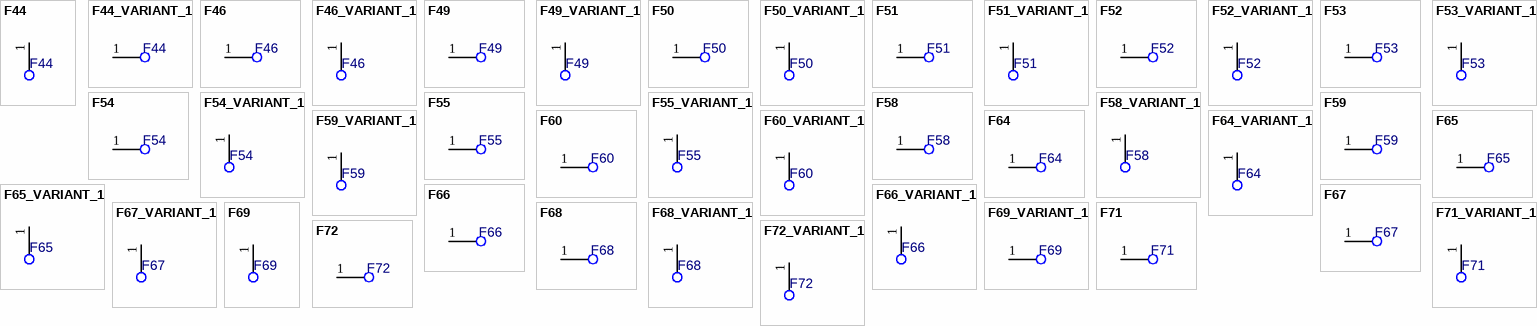
[diagram p6: symbols F44 to F72_VARIANT_1]

## F44
designator U?
Value: *
pins: 1

## F44_VARIANT_1
designator U?, comment F44
F44_VARIANT_1; Value: *
pins: 1

## F46
designator U?
Value: *
pins: 1

## F46_VARIANT_1
designator U?, comment F46
F46_VARIANT_1; Value: *
pins: 1

## F49
designator U?
Value: *
pins: 1

## F49_VARIANT_1
designator U?, comment F49
F49_VARIANT_1; Value: *
pins: 1

## F50
designator U?
Value: *
pins: 1

## F50_VARIANT_1
designator U?, comment F50
F50_VARIANT_1; Value: *
pins: 1

## F51
designator U?
Value: *
pins: 1

## F51_VARIANT_1
designator U?, comment F51
F51_VARIANT_1; Value: *
pins: 1

## F52
designator U?
Value: *
pins: 1

## F52_VARIANT_1
designator U?, comment F52
F52_VARIANT_1; Value: *
pins: 1

## F53
designator U?
Value: *
pins: 1

## F53_VARIANT_1
designator U?, comment F53
F53_VARIANT_1; Value: *
pins: 1

## F54
designator U?
Value: *
pins: 1

## F54_VARIANT_1
designator U?, comment F54
F54_VARIANT_1; Value: *
pins: 1

## F55
designator U?
Value: *
pins: 1

## F55_VARIANT_1
designator U?, comment F55
F55_VARIANT_1; Value: *
pins: 1

## F58
designator U?
Value: *
pins: 1

## F58_VARIANT_1
designator U?, comment F58
F58_VARIANT_1; Value: *
pins: 1

## F59
designator U?
Value: *
pins: 1

## F59_VARIANT_1
designator U?, comment F59
F59_VARIANT_1; Value: *
pins: 1

## F60
designator U?
Value: *
pins: 1

## F60_VARIANT_1
designator U?, comment F60
F60_VARIANT_1; Value: *
pins: 1

## F64
designator U?
Value: *
pins: 1

## F64_VARIANT_1
designator U?, comment F64
F64_VARIANT_1; Value: *
pins: 1

## F65
designator U?
Value: *
pins: 1

## F65_VARIANT_1
designator U?, comment F65
F65_VARIANT_1; Value: *
pins: 1

## F66
designator U?
Value: *
pins: 1

## F66_VARIANT_1
designator U?, comment F66
F66_VARIANT_1; Value: *
pins: 1

## F67
designator U?
Value: *
pins: 1

## F67_VARIANT_1
designator U?, comment F67
F67_VARIANT_1; Value: *
pins: 1

## F68
designator U?
Value: *
pins: 1

## F68_VARIANT_1
designator U?, comment F68
F68_VARIANT_1; Value: *
pins: 1

## F69
designator U?
Value: *
pins: 1

## F69_VARIANT_1
designator U?, comment F69
F69_VARIANT_1; Value: *
pins: 1

## F71
designator U?
Value: *
pins: 1

## F71_VARIANT_1
designator U?, comment F71
F71_VARIANT_1; Value: *
pins: 1

## F72
designator U?
Value: *
pins: 1

## F72_VARIANT_1
designator U?, comment F72
F72_VARIANT_1; Value: *
pins: 1

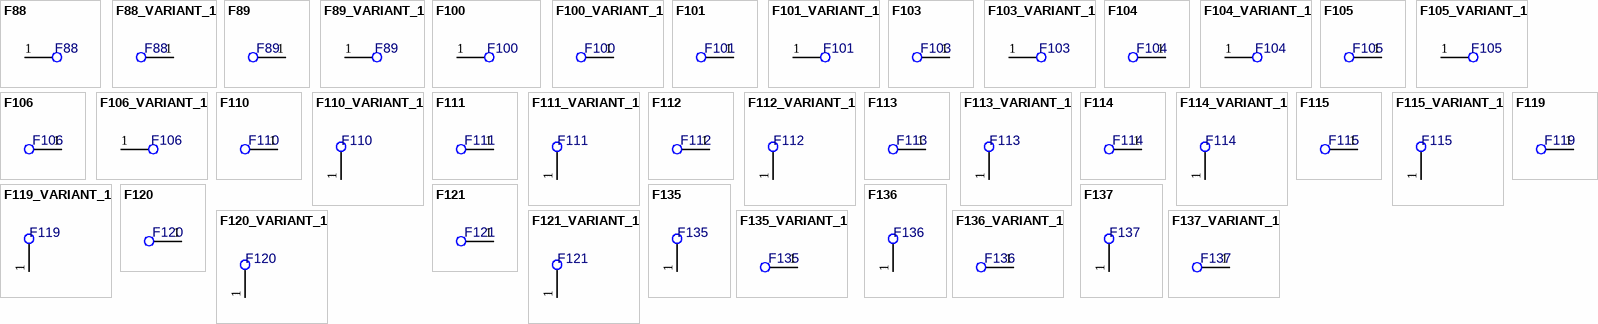
[diagram p7: symbols F88 to F137_VARIANT_1]

## F88
designator U?
Value: *
pins: 1

## F88_VARIANT_1
designator U?, comment F88
F88_VARIANT_1; Value: *
pins: 1

## F89
designator U?
Value: *
pins: 1

## F89_VARIANT_1
designator U?, comment F89
F89_VARIANT_1; Value: *
pins: 1

## F100
designator U?
Value: *
pins: 1

## F100_VARIANT_1
designator U?, comment F100
F100_VARIANT_1; Value: *
pins: 1

## F101
designator U?
Value: *
pins: 1

## F101_VARIANT_1
designator U?, comment F101
F101_VARIANT_1; Value: *
pins: 1

## F103
designator U?
Value: *
pins: 1

## F103_VARIANT_1
designator U?, comment F103
F103_VARIANT_1; Value: *
pins: 1

## F104
designator U?
Value: *
pins: 1

## F104_VARIANT_1
designator U?, comment F104
F104_VARIANT_1; Value: *
pins: 1

## F105
designator U?
Value: *
pins: 1

## F105_VARIANT_1
designator U?, comment F105
F105_VARIANT_1; Value: *
pins: 1

## F106
designator U?
Value: *
pins: 1

## F106_VARIANT_1
designator U?, comment F106
F106_VARIANT_1; Value: *
pins: 1

## F110
designator U?
Value: *
pins: 1

## F110_VARIANT_1
designator U?, comment F110
F110_VARIANT_1; Value: *
pins: 1

## F111
designator U?
Value: *
pins: 1

## F111_VARIANT_1
designator U?, comment F111
F111_VARIANT_1; Value: *
pins: 1

## F112
designator U?
Value: *
pins: 1

## F112_VARIANT_1
designator U?, comment F112
F112_VARIANT_1; Value: *
pins: 1

## F113
designator U?
Value: *
pins: 1

## F113_VARIANT_1
designator U?, comment F113
F113_VARIANT_1; Value: *
pins: 1

## F114
designator U?
Value: *
pins: 1

## F114_VARIANT_1
designator U?, comment F114
F114_VARIANT_1; Value: *
pins: 1

## F115
designator U?
Value: *
pins: 1

## F115_VARIANT_1
designator U?, comment F115
F115_VARIANT_1; Value: *
pins: 1

## F119
designator U?
Value: *
pins: 1

## F119_VARIANT_1
designator U?, comment F119
F119_VARIANT_1; Value: *
pins: 1

## F120
designator U?
Value: *
pins: 1

## F120_VARIANT_1
designator U?, comment F120
F120_VARIANT_1; Value: *
pins: 1

## F121
designator U?
Value: *
pins: 1

## F121_VARIANT_1
designator U?, comment F121
F121_VARIANT_1; Value: *
pins: 1

## F135
designator U?
Value: *
pins: 1

## F135_VARIANT_1
designator U?, comment F135
F135_VARIANT_1; Value: *
pins: 1

## F136
designator U?
Value: *
pins: 1

## F136_VARIANT_1
designator U?, comment F136
F136_VARIANT_1; Value: *
pins: 1

## F137
designator U?
Value: *
pins: 1

## F137_VARIANT_1
designator U?, comment F137
F137_VARIANT_1; Value: *
pins: 1

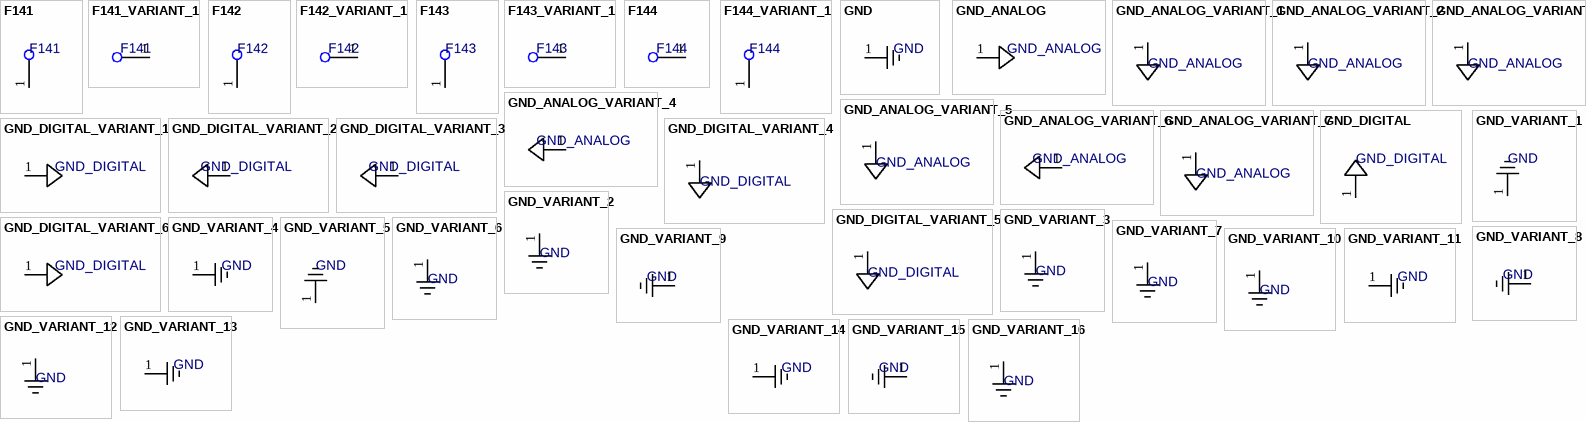
[diagram p8: symbols F141 to GND_VARIANT_16]

## F141
designator U?
Value: *
pins: 1

## F141_VARIANT_1
designator U?, comment F141
F141_VARIANT_1; Value: *
pins: 1

## F142
designator U?
Value: *
pins: 1

## F142_VARIANT_1
designator U?, comment F142
F142_VARIANT_1; Value: *
pins: 1

## F143
designator U?
Value: *
pins: 1

## F143_VARIANT_1
designator U?, comment F143
F143_VARIANT_1; Value: *
pins: 1

## F144
designator U?
Value: *
pins: 1

## F144_VARIANT_1
designator U?, comment F144
F144_VARIANT_1; Value: *
pins: 1

## GND
designator U?
Value: *
pins: 1 GND

## GND_ANALOG
designator U?
Value: *
pins: 1 GNDA

## GND_ANALOG_VARIANT_1
designator U?, comment GND_ANALOG
GND_ANALOG_VARIANT_1; Value: *
pins: 1 GNDA

## GND_ANALOG_VARIANT_2
designator U?, comment GND_ANALOG
GND_ANALOG_VARIANT_2; Value: *
pins: 1 GNDA

## GND_ANALOG_VARIANT_3
designator U?, comment GND_ANALOG
GND_ANALOG_VARIANT_3; Value: *
pins: 1 GNDA

## GND_ANALOG_VARIANT_4
designator U?, comment GND_ANALOG
GND_ANALOG_VARIANT_4; Value: *
pins: 1 GNDA

## GND_ANALOG_VARIANT_5
designator U?, comment GND_ANALOG
GND_ANALOG_VARIANT_5; Value: *
pins: 1 GNDA

## GND_ANALOG_VARIANT_6
designator U?, comment GND_ANALOG
GND_ANALOG_VARIANT_6; Value: *
pins: 1 GNDA

## GND_ANALOG_VARIANT_7
designator U?, comment GND_ANALOG
GND_ANALOG_VARIANT_7; Value: *
pins: 1 GNDA

## GND_DIGITAL
designator U?
Value: *
pins: 1 GNDD

## GND_DIGITAL_VARIANT_1
designator U?, comment GND_DIGITAL
GND_DIGITAL_VARIANT_1; Value: *
pins: 1 GNDD

## GND_DIGITAL_VARIANT_2
designator U?, comment GND_DIGITAL
GND_DIGITAL_VARIANT_2; Value: *
pins: 1 GNDD

## GND_DIGITAL_VARIANT_3
designator U?, comment GND_DIGITAL
GND_DIGITAL_VARIANT_3; Value: *
pins: 1 GNDD

## GND_DIGITAL_VARIANT_4
designator U?, comment GND_DIGITAL
GND_DIGITAL_VARIANT_4; Value: *
pins: 1 GNDD

## GND_DIGITAL_VARIANT_5
designator U?, comment GND_DIGITAL
GND_DIGITAL_VARIANT_5; Value: *
pins: 1 GNDD

## GND_DIGITAL_VARIANT_6
designator U?, comment GND_DIGITAL
GND_DIGITAL_VARIANT_6; Value: *
pins: 1 GNDD

## GND_VARIANT_1
designator U?, comment GND
GND_VARIANT_1; Value: *
pins: 1 GND

## GND_VARIANT_2
designator U?, comment GND
GND_VARIANT_2; Value: *
pins: 1 GND

## GND_VARIANT_3
designator U?, comment GND
GND_VARIANT_3; Value: *
pins: 1 GND

## GND_VARIANT_4
designator U?, comment GND
GND_VARIANT_4; Value: *
pins: 1 GND

## GND_VARIANT_5
designator U?, comment GND
GND_VARIANT_5; Value: *
pins: 1 GND

## GND_VARIANT_6
designator U?, comment GND
GND_VARIANT_6; Value: *
pins: 1 GND

## GND_VARIANT_7
designator U?, comment GND
GND_VARIANT_7; Value: *
pins: 1 GND

## GND_VARIANT_8
designator U?, comment GND
GND_VARIANT_8; Value: *
pins: 1 GND

## GND_VARIANT_9
designator U?, comment GND
GND_VARIANT_9; Value: *
pins: 1 GND

## GND_VARIANT_10
designator U?, comment GND
GND_VARIANT_10; Value: *
pins: 1 GND

## GND_VARIANT_11
designator U?, comment GND
GND_VARIANT_11; Value: *
pins: 1 GND

## GND_VARIANT_12
designator U?, comment GND
GND_VARIANT_12; Value: *
pins: 1 GND

## GND_VARIANT_13
designator U?, comment GND
GND_VARIANT_13; Value: *
pins: 1 GND

## GND_VARIANT_14
designator U?, comment GND
GND_VARIANT_14; Value: *
pins: 1 GND

## GND_VARIANT_15
designator U?, comment GND
GND_VARIANT_15; Value: *
pins: 1 GND

## GND_VARIANT_16
designator U?, comment GND
GND_VARIANT_16; Value: *
pins: 1 GND

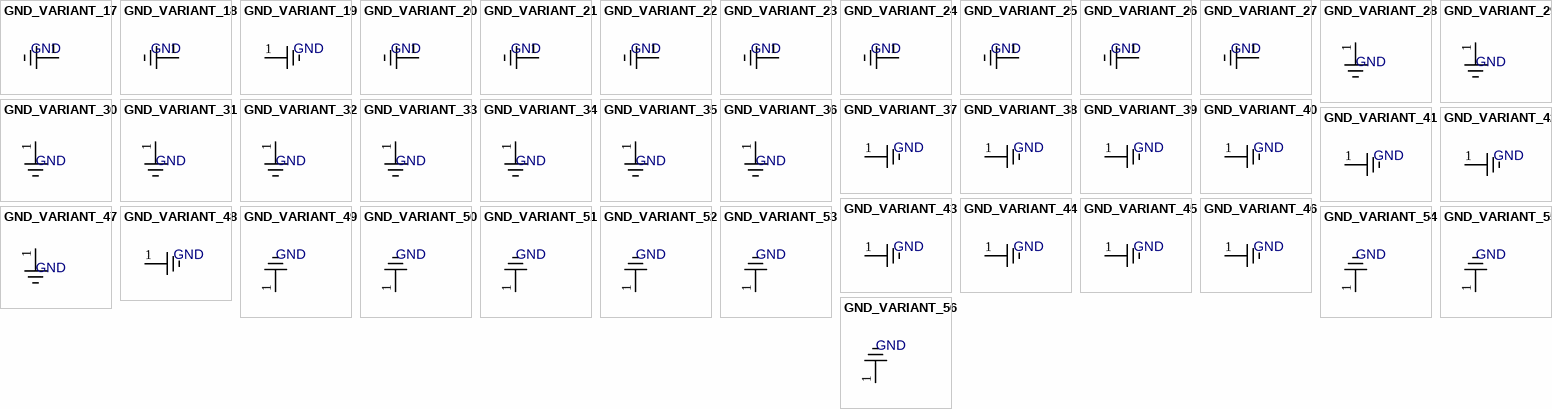
[diagram p9: symbols GND_VARIANT_17 to GND_VARIANT_56]

## GND_VARIANT_17
designator U?, comment GND
GND_VARIANT_17; Value: *
pins: 1 GND

## GND_VARIANT_18
designator U?, comment GND
GND_VARIANT_18; Value: *
pins: 1 GND

## GND_VARIANT_19
designator U?, comment GND
GND_VARIANT_19; Value: *
pins: 1 GND

## GND_VARIANT_20
designator U?, comment GND
GND_VARIANT_20; Value: *
pins: 1 GND

## GND_VARIANT_21
designator U?, comment GND
GND_VARIANT_21; Value: *
pins: 1 GND

## GND_VARIANT_22
designator U?, comment GND
GND_VARIANT_22; Value: *
pins: 1 GND

## GND_VARIANT_23
designator U?, comment GND
GND_VARIANT_23; Value: *
pins: 1 GND

## GND_VARIANT_24
designator U?, comment GND
GND_VARIANT_24; Value: *
pins: 1 GND

## GND_VARIANT_25
designator U?, comment GND
GND_VARIANT_25; Value: *
pins: 1 GND

## GND_VARIANT_26
designator U?, comment GND
GND_VARIANT_26; Value: *
pins: 1 GND

## GND_VARIANT_27
designator U?, comment GND
GND_VARIANT_27; Value: *
pins: 1 GND

## GND_VARIANT_28
designator U?, comment GND
GND_VARIANT_28; Value: *
pins: 1 GND

## GND_VARIANT_29
designator U?, comment GND
GND_VARIANT_29; Value: *
pins: 1 GND

## GND_VARIANT_30
designator U?, comment GND
GND_VARIANT_30; Value: *
pins: 1 GND

## GND_VARIANT_31
designator U?, comment GND
GND_VARIANT_31; Value: *
pins: 1 GND

## GND_VARIANT_32
designator U?, comment GND
GND_VARIANT_32; Value: *
pins: 1 GND

## GND_VARIANT_33
designator U?, comment GND
GND_VARIANT_33; Value: *
pins: 1 GND

## GND_VARIANT_34
designator U?, comment GND
GND_VARIANT_34; Value: *
pins: 1 GND

## GND_VARIANT_35
designator U?, comment GND
GND_VARIANT_35; Value: *
pins: 1 GND

## GND_VARIANT_36
designator U?, comment GND
GND_VARIANT_36; Value: *
pins: 1 GND

## GND_VARIANT_37
designator U?, comment GND
GND_VARIANT_37; Value: *
pins: 1 GND

## GND_VARIANT_38
designator U?, comment GND
GND_VARIANT_38; Value: *
pins: 1 GND

## GND_VARIANT_39
designator U?, comment GND
GND_VARIANT_39; Value: *
pins: 1 GND

## GND_VARIANT_40
designator U?, comment GND
GND_VARIANT_40; Value: *
pins: 1 GND

## GND_VARIANT_41
designator U?, comment GND
GND_VARIANT_41; Value: *
pins: 1 GND

## GND_VARIANT_42
designator U?, comment GND
GND_VARIANT_42; Value: *
pins: 1 GND

## GND_VARIANT_43
designator U?, comment GND
GND_VARIANT_43; Value: *
pins: 1 GND

## GND_VARIANT_44
designator U?, comment GND
GND_VARIANT_44; Value: *
pins: 1 GND

## GND_VARIANT_45
designator U?, comment GND
GND_VARIANT_45; Value: *
pins: 1 GND

## GND_VARIANT_46
designator U?, comment GND
GND_VARIANT_46; Value: *
pins: 1 GND

## GND_VARIANT_47
designator U?, comment GND
GND_VARIANT_47; Value: *
pins: 1 GND

## GND_VARIANT_48
designator U?, comment GND
GND_VARIANT_48; Value: *
pins: 1 GND

## GND_VARIANT_49
designator U?, comment GND
GND_VARIANT_49; Value: *
pins: 1 GND

## GND_VARIANT_50
designator U?, comment GND
GND_VARIANT_50; Value: *
pins: 1 GND

## GND_VARIANT_51
designator U?, comment GND
GND_VARIANT_51; Value: *
pins: 1 GND

## GND_VARIANT_52
designator U?, comment GND
GND_VARIANT_52; Value: *
pins: 1 GND

## GND_VARIANT_53
designator U?, comment GND
GND_VARIANT_53; Value: *
pins: 1 GND

## GND_VARIANT_54
designator U?, comment GND
GND_VARIANT_54; Value: *
pins: 1 GND

## GND_VARIANT_55
designator U?, comment GND
GND_VARIANT_55; Value: *
pins: 1 GND

## GND_VARIANT_56
designator U?, comment GND
GND_VARIANT_56; Value: *
pins: 1 GND

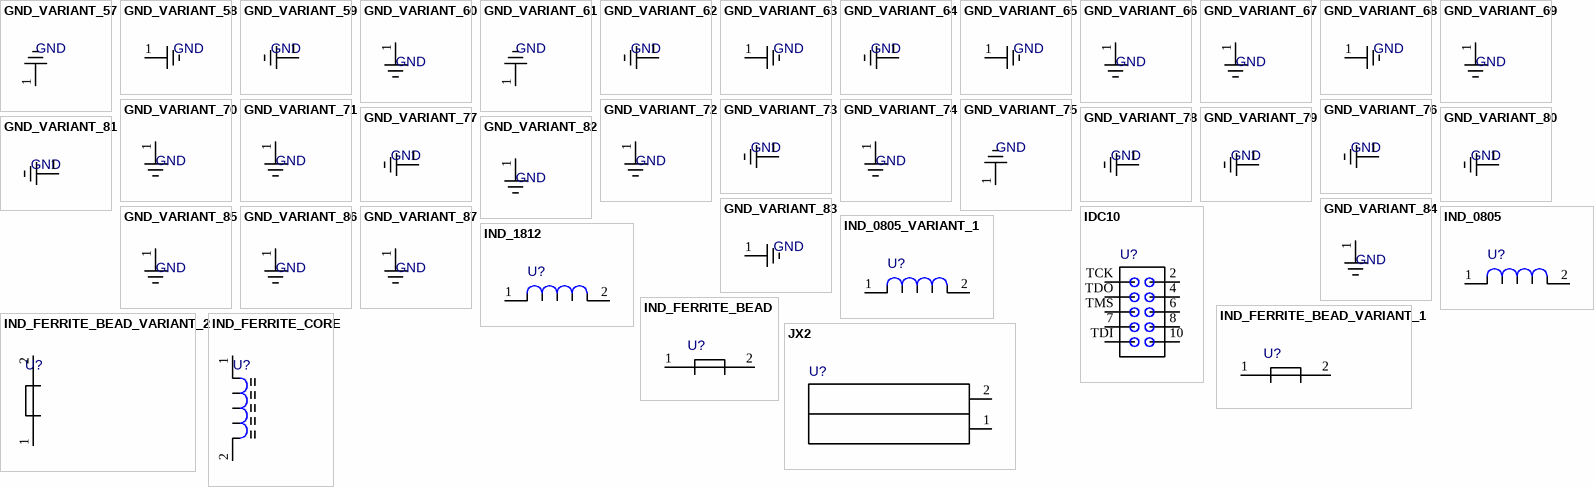
[diagram p10: symbols GND_VARIANT_57 to JX2]

## GND_VARIANT_57
designator U?, comment GND
GND_VARIANT_57; Value: *
pins: 1 GND

## GND_VARIANT_58
designator U?, comment GND
GND_VARIANT_58; Value: *
pins: 1 GND

## GND_VARIANT_59
designator U?, comment GND
GND_VARIANT_59; Value: *
pins: 1 GND

## GND_VARIANT_60
designator U?, comment GND
GND_VARIANT_60; Value: *
pins: 1 GND

## GND_VARIANT_61
designator U?, comment GND
GND_VARIANT_61; Value: *
pins: 1 GND

## GND_VARIANT_62
designator U?, comment GND
GND_VARIANT_62; Value: *
pins: 1 GND

## GND_VARIANT_63
designator U?, comment GND
GND_VARIANT_63; Value: *
pins: 1 GND

## GND_VARIANT_64
designator U?, comment GND
GND_VARIANT_64; Value: *
pins: 1 GND

## GND_VARIANT_65
designator U?, comment GND
GND_VARIANT_65; Value: *
pins: 1 GND

## GND_VARIANT_66
designator U?, comment GND
GND_VARIANT_66; Value: *
pins: 1 GND

## GND_VARIANT_67
designator U?, comment GND
GND_VARIANT_67; Value: *
pins: 1 GND

## GND_VARIANT_68
designator U?, comment GND
GND_VARIANT_68; Value: *
pins: 1 GND

## GND_VARIANT_69
designator U?, comment GND
GND_VARIANT_69; Value: *
pins: 1 GND

## GND_VARIANT_70
designator U?, comment GND
GND_VARIANT_70; Value: *
pins: 1 GND

## GND_VARIANT_71
designator U?, comment GND
GND_VARIANT_71; Value: *
pins: 1 GND

## GND_VARIANT_72
designator U?, comment GND
GND_VARIANT_72; Value: *
pins: 1 GND

## GND_VARIANT_73
designator U?, comment GND
GND_VARIANT_73; Value: *
pins: 1 GND

## GND_VARIANT_74
designator U?, comment GND
GND_VARIANT_74; Value: *
pins: 1 GND

## GND_VARIANT_75
designator U?, comment GND
GND_VARIANT_75; Value: *
pins: 1 GND

## GND_VARIANT_76
designator U?, comment GND
GND_VARIANT_76; Value: *
pins: 1 GND

## GND_VARIANT_77
designator U?, comment GND
GND_VARIANT_77; Value: *
pins: 1 GND

## GND_VARIANT_78
designator U?, comment GND
GND_VARIANT_78; Value: *
pins: 1 GND

## GND_VARIANT_79
designator U?, comment GND
GND_VARIANT_79; Value: *
pins: 1 GND

## GND_VARIANT_80
designator U?, comment GND
GND_VARIANT_80; Value: *
pins: 1 GND

## GND_VARIANT_81
designator U?, comment GND
GND_VARIANT_81; Value: *
pins: 1 GND

## GND_VARIANT_82
designator U?, comment GND
GND_VARIANT_82; Value: *
pins: 1 GND

## GND_VARIANT_83
designator U?, comment GND
GND_VARIANT_83; Value: *
pins: 1 GND

## GND_VARIANT_84
designator U?, comment GND
GND_VARIANT_84; Value: *
pins: 1 GND

## GND_VARIANT_85
designator U?, comment GND
GND_VARIANT_85; Value: *
pins: 1 GND

## GND_VARIANT_86
designator U?, comment GND
GND_VARIANT_86; Value: *
pins: 1 GND

## GND_VARIANT_87
designator U?, comment GND
GND_VARIANT_87; Value: *
pins: 1 GND

## IDC10
designator U?  (value not drawn)
Value: *
footprint IDC10M
pins: 2, 4, 6, 7, 8, 10, TCK 1, TDI, TDO 3, TMS 5

## IND_0805
designator U?  (value not drawn)
Value: *
footprint IND_0805
pins: 1, 2

## IND_0805_VARIANT_1
designator U?, comment IND_0805  (value not drawn)
IND_0805_VARIANT_1; Value: *
footprint IND_0805
pins: 1, 2

## IND_1812
designator U?  (value not drawn)
Value: *
footprint IND_1812
pins: 1, 2

## IND_FERRITE_BEAD
designator U?  (value not drawn)
Value: *
footprint RES-6.5/3.4x1.9
pins: 1, 2

## IND_FERRITE_BEAD_VARIANT_1
designator U?, comment IND_FERRITE_BEAD  (value not drawn)
IND_FERRITE_BEAD_VARIANT_1; Value: *
footprint RES-6.5/3.4x1.9
pins: 1, 2

## IND_FERRITE_BEAD_VARIANT_2
designator U?, comment IND_FERRITE_BEAD  (value not drawn)
IND_FERRITE_BEAD_VARIANT_2; Value: *
footprint RES-6.5/3.4x1.9
pins: 1, 2

## IND_FERRITE_CORE
designator U?  (value not drawn)
Value: *
footprint B82464Z4
pins: 1 A, 2 B

## JX2
designator U?  (value not drawn)
Value: *
footprint TBH-1x2/3.81/8x3
pins: 1 2, 2 1

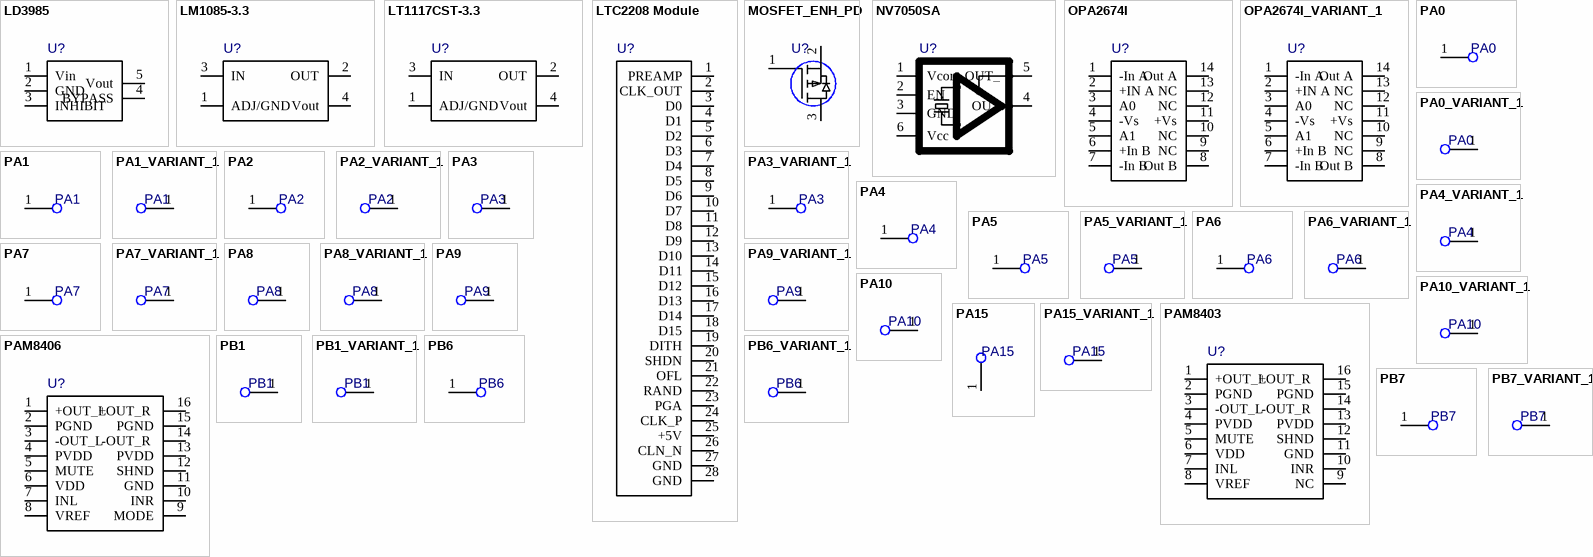
[diagram p11: symbols LD3985 to PB7_VARIANT_1]

## LD3985
designator U?  (value not drawn)
Value: *
footprint SOT23-5
pins: 1 Vin, 2 GND, 3 INHIBIT, 4 BYPASS, 5 Vout

## LM1085-3.3
designator U?  (value not drawn)
Value: *
footprint TO263-4/14x10.2x2.54
pins: 1 ADJ/GND, 2 OUT, 3 IN, 4 Vout

## LT1117CST-3.3
designator U?  (value not drawn)
Value: *
footprint SOT223-4
pins: 1 ADJ/GND, 2 OUT, 3 IN, 4 Vout

## LTC2208 Module
designator U?  (value not drawn)
Value: *
footprint ADC_LTC2208
pins: 1 PREAMP, 2 CLK_OUT, 3 D0, 4 D1, 5 D2, 6 D3, 7 D4, 8 D5, 9 D6, 10 D7, 11 D8, 12 D9, 13 D10, 14 D11, 15 D12, 16 D13, 17 D14, 18 D15, 19 DITH, 20 SHDN, 21 OFL, 22 RAND, 23 PGA, 24 CLK_P, 25 +5V, 26 CLN_N, 27 GND, 28 GND

## MOSFET_ENH_PD
designator U?  (value not drawn)
Value: *
footprint SOT23
pins: 1 G, 2 S, 3 D

## NV7050SA
designator U?  (value not drawn)
Value: *
footprint NV7050SA
pins: 1 Vcont, 2 EN, 3 GND, 4 OUT, 5 OUT_, 6 Vcc

## OPA2674I
designator U?  (value not drawn)
Value: *
footprint SOIC-14/150mil
pins: 1 -In A, 2 +IN A, 3 A0, 4 -Vs, 5 A1, 6 +In B, 7 -In B, 8 Out B, 9 NC, 10 NC, 11 +Vs, 12 NC, 13 NC, 14 Out A

## OPA2674I_VARIANT_1
designator U?, comment OPA2674I  (value not drawn)
OPA2674I_VARIANT_1; Value: *
footprint SOIC-14/150mil
pins: 1 -In A, 2 +IN A, 3 A0, 4 -Vs, 5 A1, 6 +In B, 7 -In B, 8 Out B, 9 NC, 10 NC, 11 +Vs, 12 NC, 13 NC, 14 Out A

## PA0
designator U?
Value: *
pins: 1

## PA0_VARIANT_1
designator U?, comment PA0
PA0_VARIANT_1; Value: *
pins: 1

## PA1
designator U?
Value: *
pins: 1

## PA1_VARIANT_1
designator U?, comment PA1
PA1_VARIANT_1; Value: *
pins: 1

## PA2
designator U?
Value: *
pins: 1

## PA2_VARIANT_1
designator U?, comment PA2
PA2_VARIANT_1; Value: *
pins: 1

## PA3
designator U?
Value: *
pins: 1

## PA3_VARIANT_1
designator U?, comment PA3
PA3_VARIANT_1; Value: *
pins: 1

## PA4
designator U?
Value: *
pins: 1

## PA4_VARIANT_1
designator U?, comment PA4
PA4_VARIANT_1; Value: *
pins: 1

## PA5
designator U?
Value: *
pins: 1

## PA5_VARIANT_1
designator U?, comment PA5
PA5_VARIANT_1; Value: *
pins: 1

## PA6
designator U?
Value: *
pins: 1

## PA6_VARIANT_1
designator U?, comment PA6
PA6_VARIANT_1; Value: *
pins: 1

## PA7
designator U?
Value: *
pins: 1

## PA7_VARIANT_1
designator U?, comment PA7
PA7_VARIANT_1; Value: *
pins: 1

## PA8
designator U?
Value: *
pins: 1

## PA8_VARIANT_1
designator U?, comment PA8
PA8_VARIANT_1; Value: *
pins: 1

## PA9
designator U?
Value: *
pins: 1

## PA9_VARIANT_1
designator U?, comment PA9
PA9_VARIANT_1; Value: *
pins: 1

## PA10
designator U?
Value: *
pins: 1

## PA10_VARIANT_1
designator U?, comment PA10
PA10_VARIANT_1; Value: *
pins: 1

## PA15
designator U?
Value: *
pins: 1

## PA15_VARIANT_1
designator U?, comment PA15
PA15_VARIANT_1; Value: *
pins: 1

## PAM8403
designator U?  (value not drawn)
Value: *
footprint SOP-16/7x1.27
pins: 1 +OUT_L , 2 PGND, 3 -OUT_L , 4 PVDD, 5 MUTE, 6 VDD, 7 INL, 8 VREF, 9 NC, 10 INR, 11 GND, 12 SHND, 13 PVDD, 14 -OUT_R , 15 PGND, 16 +OUT_R 

## PAM8406
designator U?  (value not drawn)
Value: *
footprint SOP-16/7x1.27
pins: 1 +OUT_L , 2 PGND, 3 -OUT_L , 4 PVDD, 5 MUTE, 6 VDD, 7 INL, 8 VREF, 9 MODE, 10 INR, 11 GND, 12 SHND, 13 PVDD, 14 -OUT_R , 15 PGND, 16 +OUT_R 

## PB1
designator U?
Value: *
pins: 1

## PB1_VARIANT_1
designator U?, comment PB1
PB1_VARIANT_1; Value: *
pins: 1

## PB6
designator U?
Value: *
pins: 1

## PB6_VARIANT_1
designator U?, comment PB6
PB6_VARIANT_1; Value: *
pins: 1

## PB7
designator U?
Value: *
pins: 1

## PB7_VARIANT_1
designator U?, comment PB7
PB7_VARIANT_1; Value: *
pins: 1

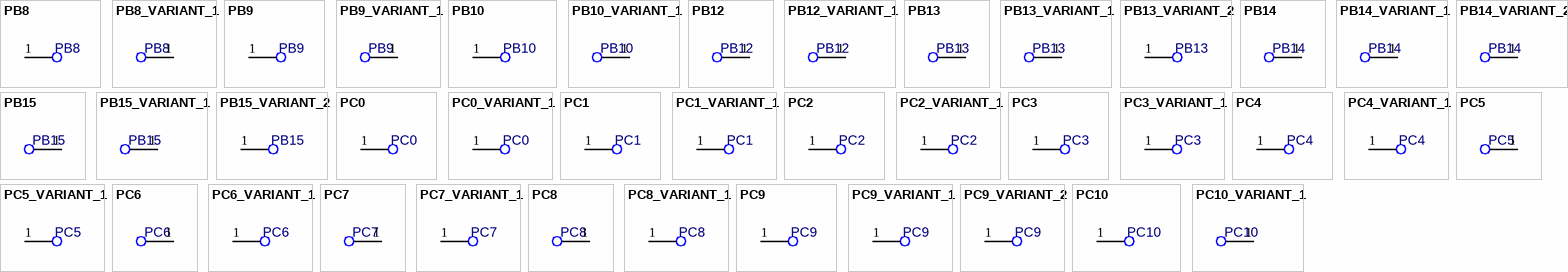
[diagram p12: symbols PB8 to PC10_VARIANT_1]

## PB8
designator U?
Value: *
pins: 1

## PB8_VARIANT_1
designator U?, comment PB8
PB8_VARIANT_1; Value: *
pins: 1

## PB9
designator U?
Value: *
pins: 1

## PB9_VARIANT_1
designator U?, comment PB9
PB9_VARIANT_1; Value: *
pins: 1

## PB10
designator U?
Value: *
pins: 1

## PB10_VARIANT_1
designator U?, comment PB10
PB10_VARIANT_1; Value: *
pins: 1

## PB12
designator U?
Value: *
pins: 1

## PB12_VARIANT_1
designator U?, comment PB12
PB12_VARIANT_1; Value: *
pins: 1

## PB13
designator U?
Value: *
pins: 1

## PB13_VARIANT_1
designator U?, comment PB13
PB13_VARIANT_1; Value: *
pins: 1

## PB13_VARIANT_2
designator U?, comment PB13
PB13_VARIANT_2; Value: *
pins: 1

## PB14
designator U?
Value: *
pins: 1

## PB14_VARIANT_1
designator U?, comment PB14
PB14_VARIANT_1; Value: *
pins: 1

## PB14_VARIANT_2
designator U?, comment PB14
PB14_VARIANT_2; Value: *
pins: 1

## PB15
designator U?
Value: *
pins: 1

## PB15_VARIANT_1
designator U?, comment PB15
PB15_VARIANT_1; Value: *
pins: 1

## PB15_VARIANT_2
designator U?, comment PB15
PB15_VARIANT_2; Value: *
pins: 1

## PC0
designator U?
Value: *
pins: 1

## PC0_VARIANT_1
designator U?, comment PC0
PC0_VARIANT_1; Value: *
pins: 1

## PC1
designator U?
Value: *
pins: 1

## PC1_VARIANT_1
designator U?, comment PC1
PC1_VARIANT_1; Value: *
pins: 1

## PC2
designator U?
Value: *
pins: 1

## PC2_VARIANT_1
designator U?, comment PC2
PC2_VARIANT_1; Value: *
pins: 1

## PC3
designator U?
Value: *
pins: 1

## PC3_VARIANT_1
designator U?, comment PC3
PC3_VARIANT_1; Value: *
pins: 1